# Altium integrated library PLD Supported Devices.IntLib: 344 symbols (part 1 of 6)
Pins are listed as number, name and electrical type; pins without a type are passive.

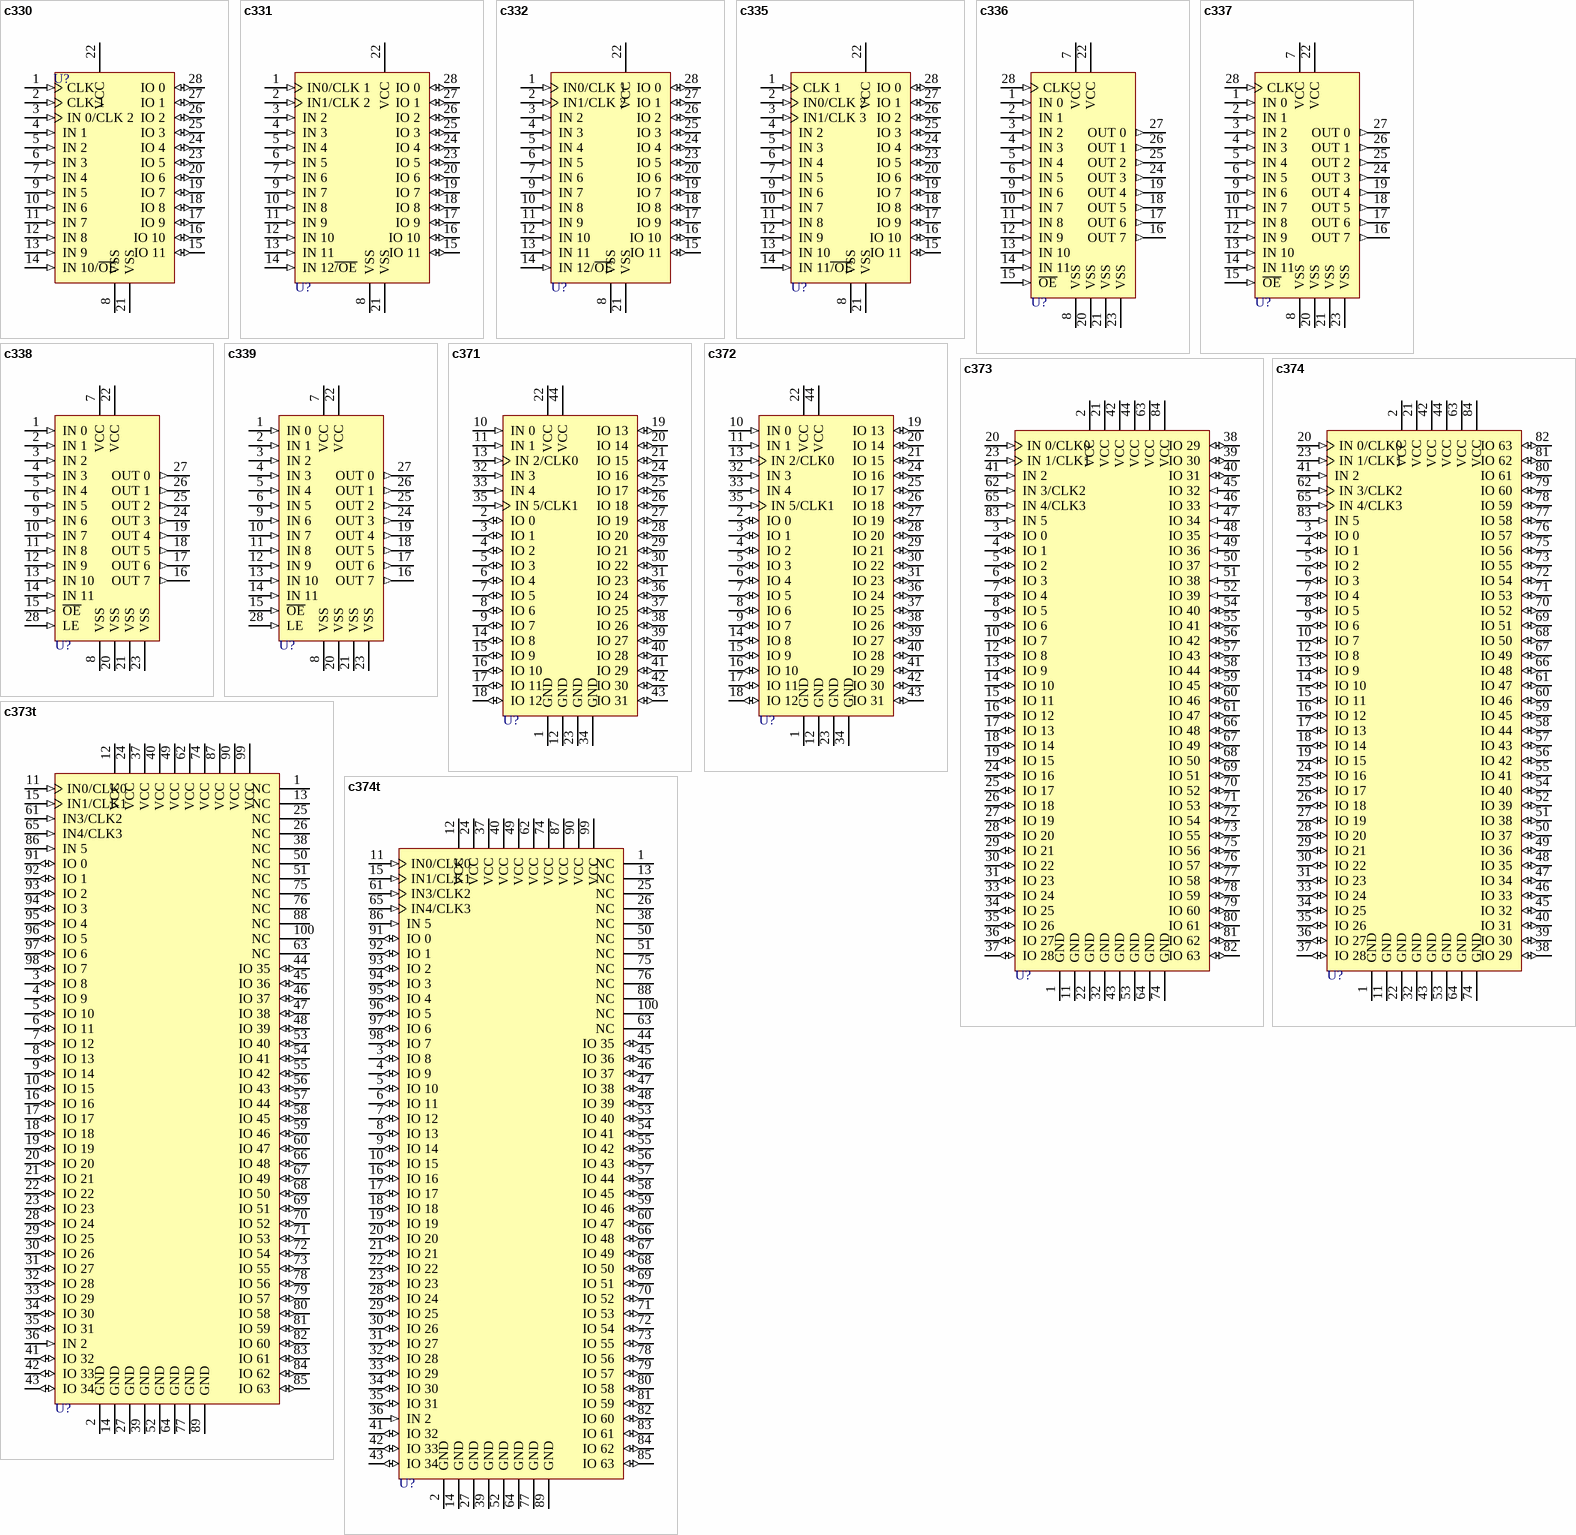
[diagram p0: symbols c330 to c374t]

## c330
designator U?
CMOS Programmable Synchronous State Machine; Published: 16-Jul-2002; LatestRevisionDate: 17-Jul-2002; LatestRevisionNote: Re-released for DXP Platform.; Publisher: Altium Limited
footprint DIP-28/D37.8
pins: 1 CLK (in), 2 CLK 1 (in), 3 IN 0/CLK 2 (in), 4 IN 1 (in), 5 IN 2 (in), 6 IN 3 (in), 7 IN 4 (in), 8 VSS (power), 9 IN 5 (in), 10 IN 6 (in), 11 IN 7 (in), 12 IN 8 (in), 13 IN 9 (in), 14 IN 10/~{OE} (in), 15 IO 11 (io), 16 IO 10 (io), 17 IO 9 (io), 18 IO 8 (io), 19 IO 7 (io), 20 IO 6 (io), 21 VSS (power), 22 VCC (power), 23 IO 5 (io), 24 IO 4 (io), 25 IO 3 (io), 26 IO 2 (io), 27 IO 1 (io), 28 IO 0 (io)

## c331
designator U?
Asynchronous Registered EPLD; Published: 16-Jul-2002; LatestRevisionDate: 17-Jul-2002; LatestRevisionNote: Re-released for DXP Platform.; Publisher: Altium Limited
footprint DIP-28/D37.8
pins: 1 IN0/CLK 1 (in), 2 IN1/CLK 2 (in), 3 IN 2 (in), 4 IN 3 (in), 5 IN 4 (in), 6 IN 5 (in), 7 IN 6 (in), 8 VSS (power), 9 IN 7 (in), 10 IN 8 (in), 11 IN 9 (in), 12 IN 10 (in), 13 IN 11 (in), 14 IN 12~{/OE} (in), 15 IO 11 (io), 16 IO 10 (io), 17 IO 9 (io), 18 IO 8 (io), 19 IO 7 (io), 20 IO 6 (io), 21 VSS (power), 22 VCC (power), 23 IO 5 (io), 24 IO 4 (io), 25 IO 3 (io), 26 IO 2 (io), 27 IO 1 (io), 28 IO 0 (io)

## c332
designator U?
Asynchronous Registered EPLD; Published: 16-Jul-2002; LatestRevisionDate: 17-Jul-2002; LatestRevisionNote: Re-released for DXP Platform.; Publisher: Altium Limited
footprint DIP-28/D37.8
pins: 1 IN0/CLK 1 (in), 2 IN1/CLK 2 (in), 3 IN 2 (in), 4 IN 3 (in), 5 IN 4 (in), 6 IN 5 (in), 7 IN 6 (in), 8 VSS (power), 9 IN 7 (in), 10 IN 8 (in), 11 IN 9 (in), 12 IN 10 (in), 13 IN 11 (in), 14 IN 12/~{OE} (in), 15 IO 11 (io), 16 IO 10 (io), 17 IO 9 (io), 18 IO 8 (io), 19 IO 7 (io), 20 IO 6 (io), 21 VSS (power), 22 VCC (power), 23 IO 5 (io), 24 IO 4 (io), 25 IO 3 (io), 26 IO 2 (io), 27 IO 1 (io), 28 IO 0 (io)

## c335
designator U?
Universal Synchronous EPLD; Published: 16-Jul-2002; LatestRevisionDate: 17-Jul-2002; LatestRevisionNote: Re-released for DXP Platform.; Publisher: Altium Limited
footprint DIP-28/D37.8
pins: 1 CLK 1 (in), 2 IN0/CLK 2 (in), 3 IN1/CLK 3 (in), 4 IN 2 (in), 5 IN 3 (in), 6 IN 4 (in), 7 IN 5 (in), 8 VSS (power), 9 IN 6 (in), 10 IN 7 (in), 11 IN 8 (in), 12 IN 9 (in), 13 IN 10 (in), 14 IN 11~{/OE} (in), 15 IO 11 (io), 16 IO 10 (io), 17 IO 9 (io), 18 IO 8 (io), 19 IO 7 (io), 20 IO 6 (io), 21 VSS (power), 22 VCC (power), 23 IO 5 (io), 24 IO 4 (io), 25 IO 3 (io), 26 IO 2 (io), 27 IO 1 (io), 28 IO 0 (io)

## c336
designator U?
6ns BICMOS PAL with Input Registers; Published: 16-Jul-2002; LatestRevisionDate: 17-Jul-2002; LatestRevisionNote: Re-released for DXP Platform.; Publisher: Altium Limited
footprint DIP-28/D37.8
pins: 1 IN 0 (in), 2 IN 1 (in), 3 IN 2 (in), 4 IN 3 (in), 5 IN 4 (in), 6 IN 5 (in), 7 VCC (power), 8 VSS (power), 9 IN 6 (in), 10 IN 7 (in), 11 IN 8 (in), 12 IN 9 (in), 13 IN 10 (in), 14 IN 11 (in), 15 ~{OE} (in), 16 OUT 7 (out), 17 OUT 6 (out), 18 OUT 5 (out), 19 OUT 4 (out), 20 VSS (power), 21 VSS (power), 22 VCC (power), 23 VSS (power), 24 OUT 3 (out), 25 OUT 2 (out), 26 OUT 1 (out), 27 OUT 0 (out), 28 CLK (in)

## c337
designator U?
6ns BICMOS PAL with Input Registers; Published: 16-Jul-2002; LatestRevisionDate: 17-Jul-2002; LatestRevisionNote: Re-released for DXP Platform.; Publisher: Altium Limited
footprint DIP-28/D37.8
pins: 1 IN 0 (in), 2 IN 1 (in), 3 IN 2 (in), 4 IN 3 (in), 5 IN 4 (in), 6 IN 5 (in), 7 VCC (power), 8 VSS (power), 9 IN 6 (in), 10 IN 7 (in), 11 IN 8 (in), 12 IN 9 (in), 13 IN 10 (in), 14 IN 11 (in), 15 ~{OE} (in), 16 OUT 7 (out), 17 OUT 6 (out), 18 OUT 5 (out), 19 OUT 4 (out), 20 VSS (power), 21 VSS (power), 22 VCC (power), 23 VSS (power), 24 OUT 3 (out), 25 OUT 2 (out), 26 OUT 1 (out), 27 OUT 0 (out), 28 CLK (in)

## c338
designator U?
6ns BICMOS PAL with Input Registers; Published: 16-Jul-2002; LatestRevisionDate: 17-Jul-2002; LatestRevisionNote: Re-released for DXP Platform.; Publisher: Altium Limited
footprint DIP-28/D37.8
pins: 1 IN 0 (in), 2 IN 1 (in), 3 IN 2 (in), 4 IN 3 (in), 5 IN 4 (in), 6 IN 5 (in), 7 VCC (power), 8 VSS (power), 9 IN 6 (in), 10 IN 7 (in), 11 IN 8 (in), 12 IN 9 (in), 13 IN 10 (in), 14 IN 11 (in), 15 ~{OE} (in), 16 OUT 7 (out), 17 OUT 6 (out), 18 OUT 5 (out), 19 OUT 4 (out), 20 VSS (power), 21 VSS (power), 22 VCC (power), 23 VSS (power), 24 OUT 3 (out), 25 OUT 2 (out), 26 OUT 1 (out), 27 OUT 0 (out), 28 LE (in)

## c339
designator U?
6ns BICMOS PAL with Input Registers; Published: 16-Jul-2002; LatestRevisionDate: 17-Jul-2002; LatestRevisionNote: Re-released for DXP Platform.; Publisher: Altium Limited
footprint DIP-28/D37.8
pins: 1 IN 0 (in), 2 IN 1 (in), 3 IN 2 (in), 4 IN 3 (in), 5 IN 4 (in), 6 IN 5 (in), 7 VCC (power), 8 VSS (power), 9 IN 6 (in), 10 IN 7 (in), 11 IN 8 (in), 12 IN 9 (in), 13 IN 10 (in), 14 IN 11 (in), 15 ~{OE} (in), 16 OUT 7 (out), 17 OUT 6 (out), 18 OUT 5 (out), 19 OUT 4 (out), 20 VSS (power), 21 VSS (power), 22 VCC (power), 23 VSS (power), 24 OUT 3 (out), 25 OUT 2 (out), 26 OUT 1 (out), 27 OUT 0 (out), 28 LE (in)

## c371
designator U?
32-Macrocell Flash PLD; Published: 16-Jul-2002; LatestRevisionDate: 17-Jul-2002; LatestRevisionNote: Re-released for DXP Platform.; Publisher: Altium Limited
footprint QCC-J44/Y2.2
pins: 1 GND (power), 2 IO 0 (io), 3 IO 1 (io), 4 IO 2 (io), 5 IO 3 (io), 6 IO 4 (io), 7 IO 5 (io), 8 IO 6 (io), 9 IO 7 (io), 10 IN 0 (in), 11 IN 1 (in), 12 GND (power), 13 IN 2/CLK0 (in), 14 IO 8 (io), 15 IO 9 (io), 16 IO 10 (io), 17 IO 11 (io), 18 IO 12 (io), 19 IO 13 (io), 20 IO 14 (io), 21 IO 15 (io), 22 VCC (power), 23 GND (power), 24 IO 16 (io), 25 IO 17 (io), 26 IO 18 (io), 27 IO 19 (io), 28 IO 20 (io), 29 IO 21 (io), 30 IO 22 (io), 31 IO 23 (io), 32 IN 3 (in), 33 IN 4 (in), 34 GND (power), 35 IN 5/CLK1 (in), 36 IO 24 (io), 37 IO 25 (io), 38 IO 26 (io), 39 IO 27 (io), 40 IO 28 (io), 41 IO 29 (io), 42 IO 30 (io), 43 IO 31 (io), 44 VCC (power)

## c372
designator U?
64-Macrocell Flash PLD; Published: 16-Jul-2002; LatestRevisionDate: 17-Jul-2002; LatestRevisionNote: Re-released for DXP Platform.; Publisher: Altium Limited
footprint QCC-J44/Y2.2
pins: 1 GND (power), 2 IO 0 (io), 3 IO 1 (io), 4 IO 2 (io), 5 IO 3 (io), 6 IO 4 (io), 7 IO 5 (io), 8 IO 6 (io), 9 IO 7 (io), 10 IN 0 (in), 11 IN 1 (in), 12 GND (power), 13 IN 2/CLK0 (in), 14 IO 8 (io), 15 IO 9 (io), 16 IO 10 (io), 17 IO 11 (io), 18 IO 12 (io), 19 IO 13 (io), 20 IO 14 (io), 21 IO 15 (io), 22 VCC (power), 23 GND (power), 24 IO 16 (io), 25 IO 17 (io), 26 IO 18 (io), 27 IO 19 (io), 28 IO 20 (io), 29 IO 21 (io), 30 IO 22 (io), 31 IO 23 (io), 32 IN 3 (in), 33 IN 4 (in), 34 GND (power), 35 IN 5/CLK1 (in), 36 IO 24 (io), 37 IO 25 (io), 38 IO 26 (io), 39 IO 27 (io), 40 IO 28 (io), 41 IO 29 (io), 42 IO 30 (io), 43 IO 31 (io), 44 VCC (power)

## c373
designator U?
64-Macrocell Flash PLD; Published: 16-Jul-2002; LatestRevisionDate: 17-Jul-2002; LatestRevisionNote: Re-released for DXP Platform.; Publisher: Altium Limited
footprint QCC-J84
pins: 1 GND (power), 2 VCC (power), 3 IO 0 (io), 4 IO 1 (io), 5 IO 2 (io), 6 IO 3 (io), 7 IO 4 (io), 8 IO 5 (io), 9 IO 6 (io), 10 IO 7 (io), 11 GND (power), 12 IO 8 (io), 13 IO 9 (io), 14 IO 10 (io), 15 IO 11 (io), 16 IO 12 (io), 17 IO 13 (io), 18 IO 14 (io), 19 IO 15 (io), 20 IN 0/CLK0 (in), 21 VCC (power), 22 GND (power), 23 IN 1/CLK1 (in), 24 IO 16 (io), 25 IO 17 (io), 26 IO 18 (io), 27 IO 19 (io), 28 IO 20 (io), 29 IO 21 (io), 30 IO 22 (io), 31 IO 23 (io), 32 GND (power), 33 IO 24 (io), 34 IO 25 (io), 35 IO 26 (io), 36 IO 27 (io), 37 IO 28 (io), 38 IO 29 (io), 39 IO 30 (io), 40 IO 31 (io), 41 IN 2 (in), 42 VCC (power), 43 GND (power), 44 VCC (power), 45 IO 32 (in), 46 IO 33 (in), 47 IO 34 (in), 48 IO 35 (in), 49 IO 36 (in), 50 IO 37 (in), 51 IO 38 (in), 52 IO 39 (in), 53 GND (power), 54 IO 40 (io), 55 IO 41 (io), 56 IO 42 (io), 57 IO 43 (io), 58 IO 44 (io), 59 IO 45 (io), 60 IO 46 (io), 61 IO 47 (io), 62 IN 3/CLK2 (in), 63 VCC (power), 64 GND (power), 65 IN 4/CLK3 (in), 66 IO 48 (io), 67 IO 49 (io), 68 IO 50 (io), 69 IO 51 (io), 70 IO 52 (io), 71 IO 53 (io), 72 IO 54 (io), 73 IO 55 (io), 74 GND (power), 75 IO 56 (io), 76 IO 57 (io), 77 IO 58 (io), 78 IO 59 (io), 79 IO 60 (io), 80 IO 61 (io), 81 IO 62 (io), 82 IO 63 (io), 83 IN 5 (in), 84 VCC (power)

## c373t
designator U?
64-Macrocell Flash PLD; Published: 16-Jul-2002; LatestRevisionDate: 17-Jul-2002; LatestRevisionNote: Re-released for DXP Platform.; Publisher: Altium Limited
footprint F-QFP14x14-G100/P.5N
pins: 1 NC, 2 GND (power), 3 IO 8 (io), 4 IO 9 (io), 5 IO 10 (io), 6 IO 11 (io), 7 IO 12 (io), 8 IO 13 (io), 9 IO 14 (io), 10 IO 15 (io), 11 IN0/CLK0 (in), 12 VCC (power), 13 NC, 14 GND (power), 15 IN1/CLK1 (in), 16 IO 16 (io), 17 IO 17 (io), 18 IO 18 (io), 19 IO 19 (io), 20 IO 20 (io), 21 IO 21 (io), 22 IO 22 (io), 23 IO 23 (io), 24 VCC (power), 25 NC, 26 NC, 27 GND (power), 28 IO 24 (io), 29 IO 25 (io), 30 IO 26 (io), 31 IO 27 (io), 32 IO 28 (io), 33 IO 29 (io), 34 IO 30 (io), 35 IO 31 (io), 36 IN 2 (in), 37 VCC (power), 38 NC, 39 GND (power), 40 VCC (power), 41 IO 32 (io), 42 IO 33 (io), 43 IO 34 (io), 44 IO 35 (io), 45 IO 36 (io), 46 IO 37 (io), 47 IO 38 (io), 48 IO 39 (io), 49 VCC (power), 50 NC, 51 NC, 52 GND (power), 53 IO 40 (io), 54 IO 41 (io), 55 IO 42 (io), 56 IO 43 (io), 57 IO 44 (io), 58 IO 45 (io), 59 IO 46 (io), 60 IO 47 (io), 61 IN3/CLK2 (in), 62 VCC (power), 63 NC, 64 GND (power), 65 IN4/CLK3 (in), 66 IO 48 (io), 67 IO 49 (io), 68 IO 50 (io), 69 IO 51 (io), 70 IO 52 (io), 71 IO 53 (io), 72 IO 54 (io), 73 IO 55 (io), 74 VCC (power), 75 NC, 76 NC, 77 GND (power), 78 IO 56 (io), 79 IO 57 (io), 80 IO 58 (io), 81 IO 59 (io), 82 IO 60 (io), 83 IO 61 (io), 84 IO 62 (io), 85 IO 63 (io), 86 IN 5 (in), 87 VCC (power), 88 NC, 89 GND (power), 90 VCC (power), 91 IO 0 (io), 92 IO 1 (io), 93 IO 2 (io), 94 IO 3 (io), 95 IO 4 (io), 96 IO 5 (io), 97 IO 6 (io), 98 IO 7 (io), 99 VCC (power), 100 NC

## c374
designator U?
128-Macrocell Flash PLD; Published: 16-Jul-2002; LatestRevisionDate: 17-Jul-2002; LatestRevisionNote: Re-released for DXP Platform.; Publisher: Altium Limited
footprint QCC-J84
pins: 1 GND (power), 2 VCC (power), 3 IO 0 (io), 4 IO 1 (io), 5 IO 2 (io), 6 IO 3 (io), 7 IO 4 (io), 8 IO 5 (io), 9 IO 6 (io), 10 IO 7 (io), 11 GND (power), 12 IO 8 (io), 13 IO 9 (io), 14 IO 10 (io), 15 IO 11 (io), 16 IO 12 (io), 17 IO 13 (io), 18 IO 14 (io), 19 IO 15 (io), 20 IN 0/CLK0 (in), 21 VCC (power), 22 GND (power), 23 IN 1/CLK1 (in), 24 IO 16 (io), 25 IO 17 (io), 26 IO 18 (io), 27 IO 19 (io), 28 IO 20 (io), 29 IO 21 (io), 30 IO 22 (io), 31 IO 23 (io), 32 GND (power), 33 IO 24 (io), 34 IO 25 (io), 35 IO 26 (io), 36 IO 27 (io), 37 IO 28 (io), 38 IO 29 (io), 39 IO 30 (io), 40 IO 31 (io), 41 IN 2 (in), 42 VCC (power), 43 GND (power), 44 VCC (power), 45 IO 32 (io), 46 IO 33 (io), 47 IO 34 (io), 48 IO 35 (io), 49 IO 36 (io), 50 IO 37 (io), 51 IO 38 (io), 52 IO 39 (io), 53 GND (power), 54 IO 40 (io), 55 IO 41 (io), 56 IO 42 (io), 57 IO 43 (io), 58 IO 44 (io), 59 IO 45 (io), 60 IO 46 (io), 61 IO 47 (io), 62 IN 3/CLK2 (in), 63 VCC (power), 64 GND (power), 65 IN 4/CLK3 (in), 66 IO 48 (io), 67 IO 49 (io), 68 IO 50 (io), 69 IO 51 (io), 70 IO 52 (io), 71 IO 53 (io), 72 IO 54 (io), 73 IO 55 (io), 74 GND (power), 75 IO 56 (io), 76 IO 57 (io), 77 IO 58 (io), 78 IO 59 (io), 79 IO 60 (io), 80 IO 61 (io), 81 IO 62 (io), 82 IO 63 (io), 83 IN 5 (in), 84 VCC (power)

## c374t
designator U?
64-Macrocell Flash PLD; Published: 16-Jul-2002; LatestRevisionDate: 17-Jul-2002; LatestRevisionNote: Re-released for DXP Platform.; Publisher: Altium Limited
footprint F-QFP14x14-G100/P.5N
pins: 1 NC, 2 GND (power), 3 IO 8 (io), 4 IO 9 (io), 5 IO 10 (io), 6 IO 11 (io), 7 IO 12 (io), 8 IO 13 (io), 9 IO 14 (io), 10 IO 15 (io), 11 IN0/CLK0 (in), 12 VCC (power), 13 NC, 14 GND (power), 15 IN1/CLK1 (in), 16 IO 16 (io), 17 IO 17 (io), 18 IO 18 (io), 19 IO 19 (io), 20 IO 20 (io), 21 IO 21 (io), 22 IO 22 (io), 23 IO 23 (io), 24 VCC (power), 25 NC, 26 NC, 27 GND (power), 28 IO 24 (io), 29 IO 25 (io), 30 IO 26 (io), 31 IO 27 (io), 32 IO 28 (io), 33 IO 29 (io), 34 IO 30 (io), 35 IO 31 (io), 36 IN 2 (in), 37 VCC (power), 38 NC, 39 GND (power), 40 VCC (power), 41 IO 32 (io), 42 IO 33 (io), 43 IO 34 (io), 44 IO 35 (io), 45 IO 36 (io), 46 IO 37 (io), 47 IO 38 (io), 48 IO 39 (io), 49 VCC (power), 50 NC, 51 NC, 52 GND (power), 53 IO 40 (io), 54 IO 41 (io), 55 IO 42 (io), 56 IO 43 (io), 57 IO 44 (io), 58 IO 45 (io), 59 IO 46 (io), 60 IO 47 (io), 61 IN3/CLK2 (in), 62 VCC (power), 63 NC, 64 GND (power), 65 IN4/CLK3 (in), 66 IO 48 (io), 67 IO 49 (io), 68 IO 50 (io), 69 IO 51 (io), 70 IO 52 (io), 71 IO 53 (io), 72 IO 54 (io), 73 IO 55 (io), 74 VCC (power), 75 NC, 76 NC, 77 GND (power), 78 IO 56 (io), 79 IO 57 (io), 80 IO 58 (io), 81 IO 59 (io), 82 IO 60 (io), 83 IO 61 (io), 84 IO 62 (io), 85 IO 63 (io), 86 IN 5 (in), 87 VCC (power), 88 NC, 89 GND (power), 90 VCC (power), 91 IO 0 (io), 92 IO 1 (io), 93 IO 2 (io), 94 IO 3 (io), 95 IO 4 (io), 96 IO 5 (io), 97 IO 6 (io), 98 IO 7 (io), 99 VCC (power), 100 NC

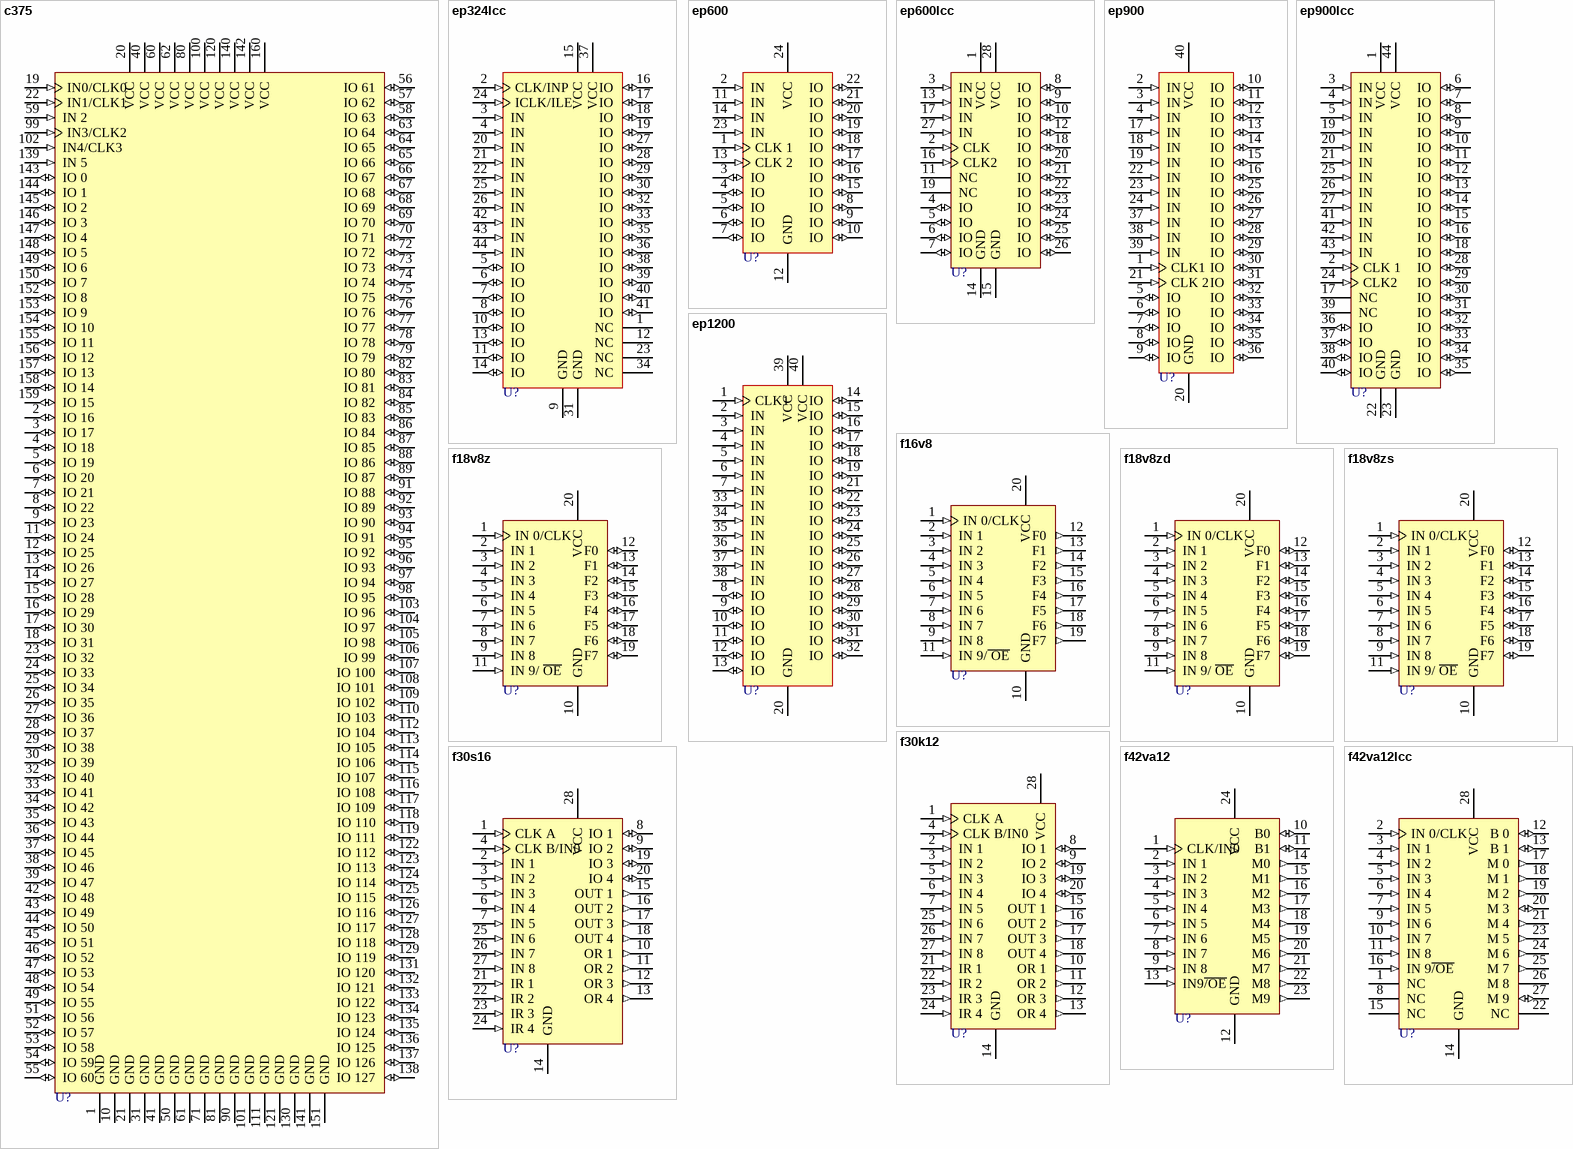
[diagram p1: symbols c375 to f42va12lcc]

## c375
designator U?
1128-Macrocell Flash PLD; Published: 16-Jul-2002; LatestRevisionDate: 17-Jul-2002; LatestRevisionNote: Re-released for DXP Platform.; Publisher: Altium Limited
footprint F-QFP24x24-G160/N
pins: 1 GND (power), 2 IO 16 (io), 3 IO 17 (io), 4 IO 18 (io), 5 IO 19 (io), 6 IO 20 (io), 7 IO 21 (io), 8 IO 22 (io), 9 IO 23 (io), 10 GND (power), 11 IO 24 (io), 12 IO 25 (io), 13 IO 26 (io), 14 IO 27 (io), 15 IO 28 (io), 16 IO 29 (io), 17 IO 30 (io), 18 IO 31 (io), 19 IN0/CLK0 (in), 20 VCC (power), 21 GND (power), 22 IN1/CLK1 (in), 23 IO 32 (io), 24 IO 33 (io), 25 IO 34 (io), 26 IO 35 (io), 27 IO 36 (io), 28 IO 37 (io), 29 IO 38 (io), 30 IO 39 (io), 31 GND (power), 32 IO 40 (io), 33 IO 41 (io), 34 IO 42 (io), 35 IO 43 (io), 36 IO 44 (io), 37 IO 45 (io), 38 IO 46 (io), 39 IO 47 (io), 40 VCC (power), 41 GND (power), 42 IO 48 (io), 43 IO 49 (io), 44 IO 50 (io), 45 IO 51 (io), 46 IO 52 (io), 47 IO 53 (io), 48 IO 54 (io), 49 IO 55 (io), 50 GND (power), 51 IO 56 (io), 52 IO 57 (io), 53 IO 58 (io), 54 IO 59 (io), 55 IO 60 (io), 56 IO 61 (io), 57 IO 62 (io), 58 IO 63 (io), 59 IN 2 (in), 60 VCC (power), 61 GND (power), 62 VCC (power), 63 IO 64 (io), 64 IO 65 (io), 65 IO 66 (io), 66 IO 67 (io), 67 IO 68 (io), 68 IO 69 (io), 69 IO 70 (io), 70 IO 71 (io), 71 GND (power), 72 IO 72 (io), 73 IO 73 (io), 74 IO 74 (io), 75 IO 75 (io), 76 IO 76 (io), 77 IO 77 (io), 78 IO 78 (io), 79 IO 79 (io), 80 VCC (power), 81 GND (power), 82 IO 80 (io), 83 IO 81 (io), 84 IO 82 (io), 85 IO 83 (io), 86 IO 84 (io), 87 IO 85 (io), 88 IO 86 (io), 89 IO 87 (io), 90 GND (power), 91 IO 88 (io), 92 IO 89 (io), 93 IO 90 (io), 94 IO 91 (io), 95 IO 92 (io), 96 IO 93 (io), 97 IO 94 (io), 98 IO 95 (io), 99 IN3/CLK2 (in), 100 VCC (power), 101 GND (power), 102 IN4/CLK3 (in), 103 IO 96 (io), 104 IO 97 (io), 105 IO 98 (io), 106 IO 99 (io), 107 IO 100 (io), 108 IO 101 (io), 109 IO 102 (io), 110 IO 103 (io), 111 GND (power), 112 IO 104 (io), 113 IO 105 (io), 114 IO 106 (io), 115 IO 107 (io), 116 IO 108 (io), 117 IO 109 (io), 118 IO 110 (io), 119 IO 111 (io), 120 VCC (power), 121 GND (power), 122 IO 112 (io), 123 IO 113 (io), 124 IO 114 (io), 125 IO 115 (io), 126 IO 116 (io), 127 IO 117 (io), 128 IO 118 (io), 129 IO 119 (io), 130 GND (power), 131 IO 120 (io), 132 IO 121 (io), 133 IO 122 (io), 134 IO 123 (io), 135 IO 124 (io), 136 IO 125 (io), 137 IO 126 (io), 138 IO 127 (io), 139 IN 5 (in), 140 VCC (power), 141 GND (power), 142 VCC (power), 143 IO 0 (io), 144 IO 1 (io), 145 IO 2 (io), 146 IO 3 (io), 147 IO 4 (io), 148 IO 5 (io), 149 IO 6 (io), 150 IO 7 (io), 151 GND (power), 152 IO 8 (io), 153 IO 9 (io), 154 IO 10 (io), 155 IO 11 (io), 156 IO 12 (io), 157 IO 13 (io), 158 IO 14 (io), 159 IO 15 (io), 160 VCC (power)

## ep324lcc
designator U?
Erasable Programmable Logic Device (8-Macrocell); Published: 16-Jul-2002; LatestRevisionDate: 17-Jul-2002; LatestRevisionNote: Re-released for DXP Platform.; Publisher: Altium Limited
pins: 1 NC, 2 CLK/INP (in), 3 IN (in), 4 IN (in), 5 IO (io), 6 IO (io), 7 IO (io), 8 IO (io), 9 GND (power), 10 IO (io), 11 IO (io), 12 NC, 13 IO (io), 14 IO (io), 15 VCC (power), 16 IO (io), 17 IO (io), 18 IO (io), 19 IO (io), 20 IN (in), 21 IN (in), 22 IN (in), 23 NC, 24 ICLK/ILE (in), 25 IN (in), 26 IN (in), 27 IO (io), 28 IO (io), 29 IO (io), 30 IO (io), 31 GND (power), 32 IO (io), 33 IO (io), 34 NC, 35 IO (io), 36 IO (io), 37 VCC (power), 38 IO (io), 39 IO (io), 40 IO (io), 41 IO (io), 42 IN (in), 43 IN (in), 44 IN (in)

## ep600
designator U?
16-Macrocell EPLD; Published: 16-Jul-2002; LatestRevisionDate: 17-Jul-2002; LatestRevisionNote: Re-released for DXP Platform.; Publisher: Altium Limited
footprint DIP-24/X1.5
pins: 1 CLK 1 (in), 2 IN (in), 3 IO (io), 4 IO (io), 5 IO (io), 6 IO (io), 7 IO (io), 8 IO (io), 9 IO (io), 10 IO (io), 11 IN (in), 12 GND (power), 13 CLK 2 (in), 14 IN (in), 15 IO (io), 16 IO (io), 17 IO (io), 18 IO (io), 19 IO (io), 20 IO (io), 21 IO (io), 22 IO (io), 23 IN (in), 24 VCC (power)

## ep600lcc
designator U?
16-Macrocell EPLD; Published: 16-Jul-2002; LatestRevisionDate: 17-Jul-2002; LatestRevisionNote: Re-released for DXP Platform.; Publisher: Altium Limited
footprint QCC-J28/X.6
pins: 1 VCC (power), 2 CLK (in), 3 IN (in), 4 IO (io), 5 IO (io), 6 IO (io), 7 IO (io), 8 IO (io), 9 IO (io), 10 IO (io), 11 NC, 12 IO (io), 13 IN (in), 14 GND (power), 15 GND (power), 16 CLK2 (in), 17 IN (in), 18 IO (io), 19 NC, 20 IO (io), 21 IO (io), 22 IO (io), 23 IO (io), 24 IO (io), 25 IO (io), 26 IO (io), 27 IN (in), 28 VCC (power)

## ep900
designator U?
24-Macrocell Classic EPLD; Published: 16-Jul-2002; LatestRevisionDate: 17-Jul-2002; LatestRevisionNote: Re-released for DXP Platform.; Publisher: Altium Limited
footprint DIP-40/D53
pins: 1 CLK1 (in), 2 IN (in), 3 IN (in), 4 IN (in), 5 IO (io), 6 IO (io), 7 IO (io), 8 IO (io), 9 IO (io), 10 IO (io), 11 IO (io), 12 IO (io), 13 IO (io), 14 IO (io), 15 IO (io), 16 IO (io), 17 IN (in), 18 IN (in), 19 IN (in), 20 GND (power), 21 CLK 2 (in), 22 IN (in), 23 IN (in), 24 IN (in), 25 IO (io), 26 IO (io), 27 IO (io), 28 IO (io), 29 IO (io), 30 IO (io), 31 IO (io), 32 IO (io), 33 IO (io), 34 IO (io), 35 IO (io), 36 IO (io), 37 IN (in), 38 IN (in), 39 IN (in), 40 VCC (power)

## ep900lcc
designator U?
24-Macrocell Classic EPLD; Published: 16-Jul-2002; LatestRevisionDate: 17-Jul-2002; LatestRevisionNote: Re-released for DXP Platform.; Publisher: Altium Limited
footprint QCC-J44
pins: 1 VCC (power), 2 CLK 1 (in), 3 IN (in), 4 IN (in), 5 IN (in), 6 IO (io), 7 IO (io), 8 IO (io), 9 IO (io), 10 IO (io), 11 IO (io), 12 IO (io), 13 IO (io), 14 IO (io), 15 IO (io), 16 IO (io), 17 NC, 18 IO (io), 19 IN (in), 20 IN (in), 21 IN (in), 22 GND (power), 23 GND (power), 24 CLK2 (in), 25 IN (in), 26 IN (in), 27 IN (in), 28 IO (io), 29 IO (io), 30 IO (io), 31 IO (io), 32 IO (io), 33 IO (io), 34 IO (io), 35 IO (io), 36 IO (io), 37 IO (io), 38 IO (io), 39 NC, 40 IO (io), 41 IN (in), 42 IN (in), 43 IN (in), 44 VCC (power)

## ep1200
designator U?
LSI Logic Circuit contains CMOS EPROM (28-Macrocell); Published: 16-Jul-2002; LatestRevisionDate: 17-Jul-2002; LatestRevisionNote: Re-released for DXP Platform.; Publisher: Altium Limited
pins: 1 CLK1 (in), 2 IN (in), 3 IN (in), 4 IN (in), 5 IN (in), 6 IN (in), 7 IN (in), 8 IO (io), 9 IO (io), 10 IO (io), 11 IO (io), 12 IO (io), 13 IO (io), 14 IO (io), 15 IO (io), 16 IO (io), 17 IO (io), 18 IO (io), 19 IO (io), 20 GND (power), 21 IO (io), 22 IO (io), 23 IO (io), 24 IO (io), 25 IO (io), 26 IO (io), 27 IO (io), 28 IO (io), 29 IO (io), 30 IO (io), 31 IO (io), 32 IO (io), 33 IN (in), 34 IN (in), 35 IN (in), 36 IN (in), 37 IN (in), 38 IN (in), 39 VCC (power), 40 VCC (power)

## f16v8
designator U?
High-Performance EEPLD; Published: 16-Jul-2002; LatestRevisionDate: 17-Jul-2002; LatestRevisionNote: Re-released for DXP Platform.; Publisher: Altium Limited
footprint SO-G20/D13
pins: 1 IN 0/CLK (in), 2 IN 1 (in), 3 IN 2 (in), 4 IN 3 (in), 5 IN 4 (in), 6 IN 5 (in), 7 IN 6 (in), 8 IN 7 (in), 9 IN 8 (in), 10 GND (power), 11 IN 9/~{ OE} (in), 12 F0 (out), 13 F1 (out), 14 F2 (out), 15 F3 (out), 16 F4 (out), 17 F5 (out), 18 F6 (out), 19 F7 (out), 20 VCC (power)

## f18v8z
designator U?
Zero-Standby Power 20-Pin EPLD; Published: 16-Jul-2002; LatestRevisionDate: 17-Jul-2002; LatestRevisionNote: Re-released for DXP Platform.; Publisher: Altium Limited
footprint DIP-20/E5.3
pins: 1 IN 0/CLK (in), 2 IN 1 (in), 3 IN 2 (in), 4 IN 3 (in), 5 IN 4 (in), 6 IN 5 (in), 7 IN 6 (in), 8 IN 7 (in), 9 IN 8 (in), 10 GND (power), 11 IN 9/ ~{OE} (in), 12 F0 (io), 13 F1 (io), 14 F2 (io), 15 F3 (io), 16 F4 (io), 17 F5 (io), 18 F6 (io), 19 F7 (io), 20 VCC (power)

## f18v8zd
designator U?
Zero-Standby Power 20-Pin EPLD; Published: 16-Jul-2002; LatestRevisionDate: 17-Jul-2002; LatestRevisionNote: Re-released for DXP Platform.; Publisher: Altium Limited
footprint DIP-20/E5.3
pins: 1 IN 0/CLK (in), 2 IN 1 (in), 3 IN 2 (in), 4 IN 3 (in), 5 IN 4 (in), 6 IN 5 (in), 7 IN 6 (in), 8 IN 7 (in), 9 IN 8 (in), 10 GND (power), 11 IN 9/ ~{OE} (in), 12 F0 (io), 13 F1 (io), 14 F2 (io), 15 F3 (io), 16 F4 (io), 17 F5 (io), 18 F6 (io), 19 F7 (io), 20 VCC (power)

## f18v8zs
designator U?
Zero-Standby Power 20-Pin EPLD; Published: 16-Jul-2002; LatestRevisionDate: 17-Jul-2002; LatestRevisionNote: Re-released for DXP Platform.; Publisher: Altium Limited
footprint QCC-J20
pins: 1 IN 0/CLK (in), 2 IN 1 (in), 3 IN 2 (in), 4 IN 3 (in), 5 IN 4 (in), 6 IN 5 (in), 7 IN 6 (in), 8 IN 7 (in), 9 IN 8 (in), 10 GND (power), 11 IN 9/ ~{OE} (in), 12 F0 (io), 13 F1 (io), 14 F2 (io), 15 F3 (io), 16 F4 (io), 17 F5 (io), 18 F6 (io), 19 F7 (io), 20 VCC (power)

## f30k12
designator U?
28-Pin Universal Programmable Logic Sequencers; Published: 16-Jul-2002; LatestRevisionDate: 17-Jul-2002; LatestRevisionNote: Re-released for DXP Platform.; Publisher: Altium Limited
pins: 1 CLK A (in), 2 IN 1 (in), 3 IN 2 (in), 4 CLK B/IN0 (in), 5 IN 3 (in), 6 IN 4 (in), 7 IN 5 (in), 8 IO 1 (io), 9 IO 2 (io), 10 OR 1 (out), 11 OR 2 (out), 12 OR 3 (out), 13 OR 4 (out), 14 GND (power), 15 OUT 1 (out), 16 OUT 2 (out), 17 OUT 3 (out), 18 OUT 4 (out), 19 IO 3 (io), 20 IO 4 (io), 21 IR 1 (in), 22 IR 2 (in), 23 IR 3 (in), 24 IR 4 (in), 25 IN 6 (in), 26 IN 7 (in), 27 IN 8 (in), 28 VCC (power)

## f30s16
designator U?
28-Pin Universal Programmable Logic Sequencers; Published: 16-Jul-2002; LatestRevisionDate: 17-Jul-2002; LatestRevisionNote: Re-released for DXP Platform.; Publisher: Altium Limited
pins: 1 CLK A (in), 2 IN 1 (in), 3 IN 2 (in), 4 CLK B/IN0 (in), 5 IN 3 (in), 6 IN 4 (in), 7 IN 5 (in), 8 IO 1 (io), 9 IO 2 (io), 10 OR 1 (out), 11 OR 2 (out), 12 OR 3 (out), 13 OR 4 (out), 14 GND (power), 15 OUT 1 (out), 16 OUT 2 (out), 17 OUT 3 (out), 18 OUT 4 (out), 19 IO 3 (io), 20 IO 4 (io), 21 IR 1 (in), 22 IR 2 (in), 23 IR 3 (in), 24 IR 4 (in), 25 IN 6 (in), 26 IN 7 (in), 27 IN 8 (in), 28 VCC (power)

## f42va12
designator U?
CMOS Programmable Multi-Function PLD; Published: 16-Jul-2002; LatestRevisionDate: 17-Jul-2002; LatestRevisionNote: Re-released for DXP Platform.; Publisher: Altium Limited
pins: 1 CLK/IN0 (in), 2 IN 1 (in), 3 IN 2 (in), 4 IN 3 (in), 5 IN 4 (in), 6 IN 5 (in), 7 IN 6 (in), 8 IN 7 (in), 9 IN 8 (in), 10 B0 (io), 11 B1 (io), 12 GND (power), 13 IN9~{/OE} (in), 14 M0 (out), 15 M1 (out), 16 M2 (out), 17 M3 (out), 18 M4 (out), 19 M5 (out), 20 M6 (out), 21 M7 (out), 22 M8 (out), 23 M9 (out), 24 VCC (power)

## f42va12lcc
designator U?
CMOS Programmable Multi-Function PLD (42x105x12); Published: 16-Jul-2002; LatestRevisionDate: 17-Jul-2002; LatestRevisionNote: Re-released for DXP Platform.; Publisher: Altium Limited
pins: 1 NC, 2 IN 0/CLK (in), 3 IN 1 (in), 4 IN 2 (in), 5 IN 3 (in), 6 IN 4 (in), 7 IN 5 (in), 8 NC, 9 IN 6 (in), 10 IN 7 (in), 11 IN 8 (in), 12 B 0 (io), 13 B 1 (io), 14 GND (power), 15 NC, 16 IN 9~{/OE} (in), 17 M 0 (out), 18 M 1 (out), 19 M 2 (out), 20 M 3 (io), 21 M 4 (out), 22 NC, 23 M 5 (out), 24 M 6 (out), 25 M 7 (out), 26 M 8, 27 M 9 (io), 28 VCC (power)

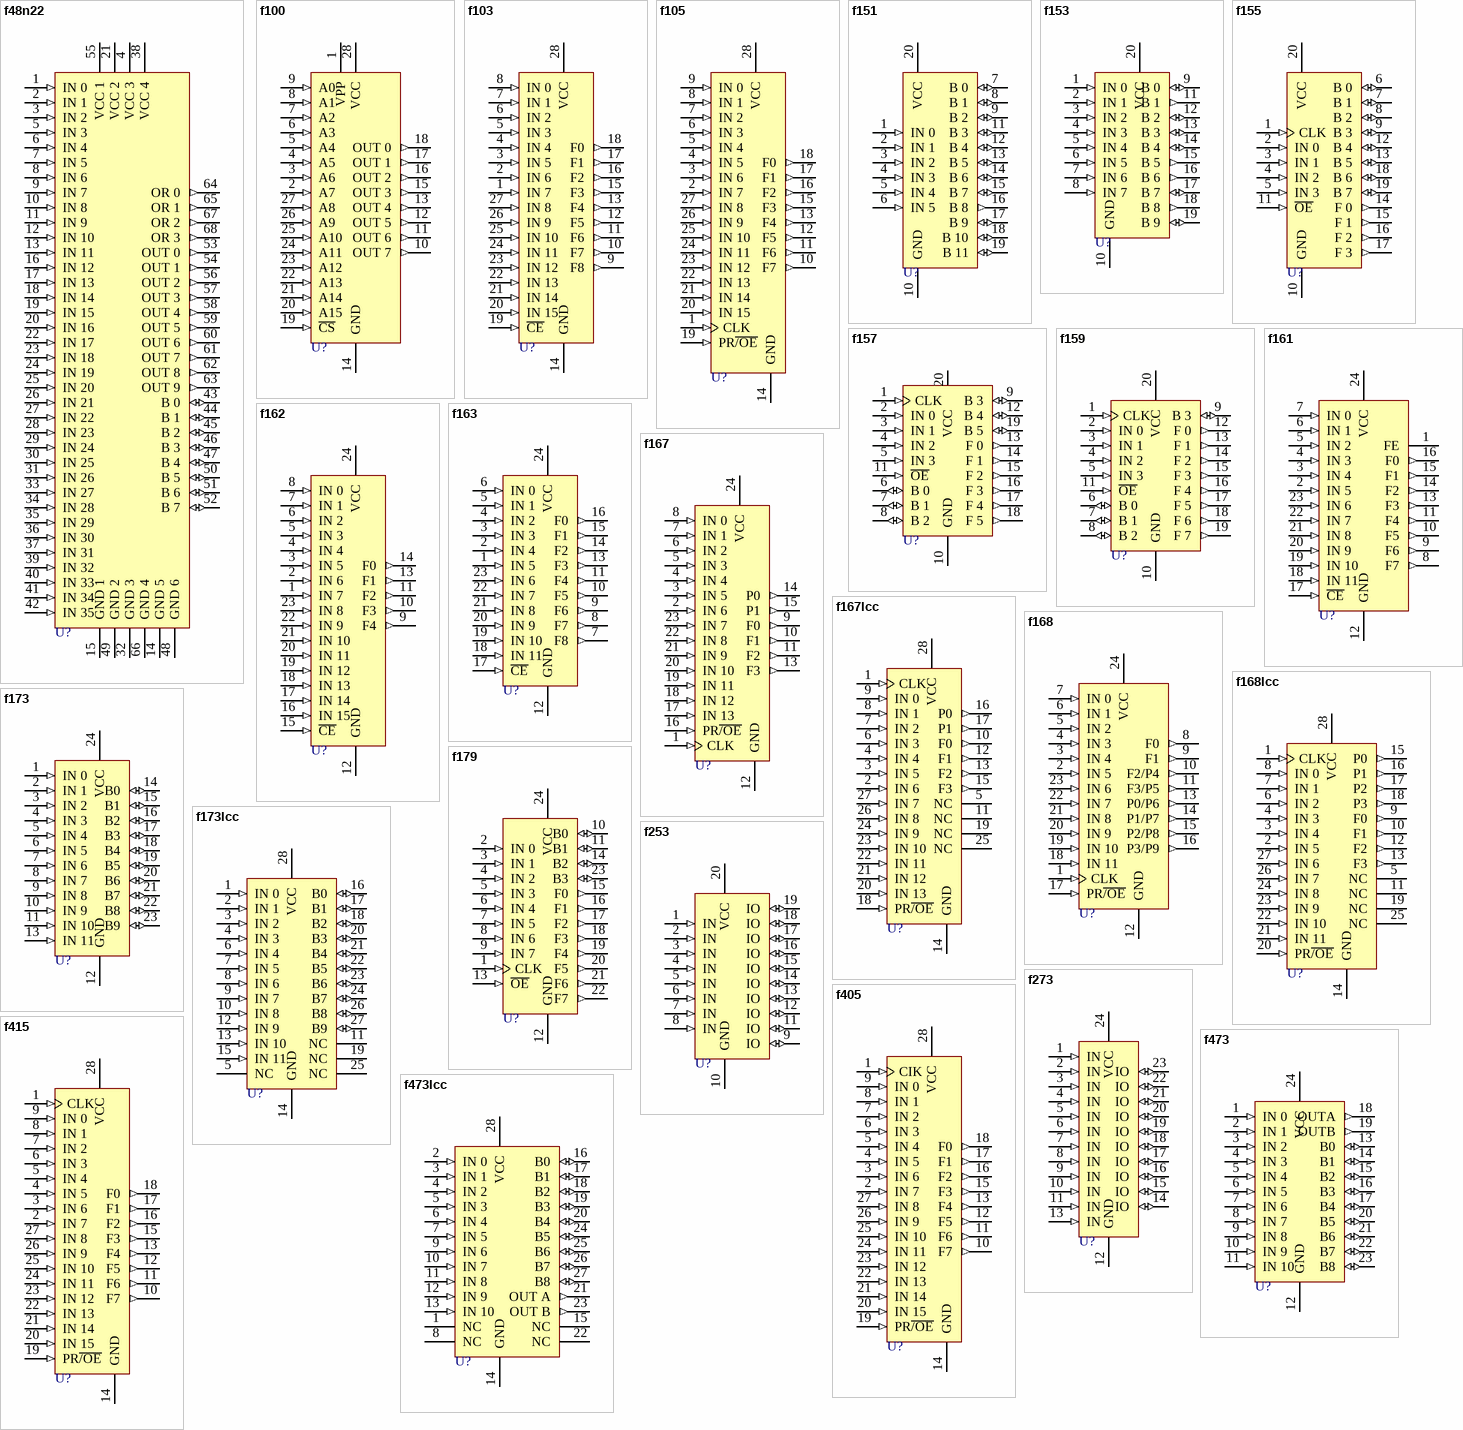
[diagram p2: symbols f48n22 to f473lcc]

## f48n22
designator U?
Programmable High-Speed Decoder Logic (48x73x22); Published: 16-Jul-2002; LatestRevisionDate: 17-Jul-2002; LatestRevisionNote: Re-released for DXP Platform.; Publisher: Altium Limited
pins: 1 IN 0 (in), 2 IN 1 (in), 3 IN 2 (in), 4 VCC 3 (power), 5 IN 3 (in), 6 IN 4 (in), 7 IN 5 (in), 8 IN 6 (in), 9 IN 7 (in), 10 IN 8 (in), 11 IN 9 (in), 12 IN 10 (in), 13 IN 11 (in), 14 GND 5 (power), 15 GND 1 (power), 16 IN 12 (in), 17 IN 13 (in), 18 IN 14 (in), 19 IN 15 (in), 20 IN 16 (in), 21 VCC 2 (power), 22 IN 17 (in), 23 IN 18 (in), 24 IN 19 (in), 25 IN 20 (in), 26 IN 21 (in), 27 IN 22 (in), 28 IN 23 (in), 29 IN 24 (in), 30 IN 25 (in), 31 IN 26 (in), 32 GND 3 (power), 33 IN 27 (in), 34 IN 28 (in), 35 IN 29 (in), 36 IN 30 (in), 37 IN 31 (in), 38 VCC 4 (power), 39 IN 32 (in), 40 IN 33 (in), 41 IN 34 (in), 42 IN 35 (in), 43 B 0 (io), 44 B 1 (io), 45 B 2 (io), 46 B 3 (io), 47 B 4 (io), 48 GND 6 (power), 49 GND 2 (power), 50 B 5 (io), 51 B 6 (io), 52 B 7 (io), 53 OUT 0 (out), 54 OUT 1 (out), 55 VCC 1 (power), 56 OUT 2 (out), 57 OUT 3 (out), 58 OUT 4 (out), 59 OUT 5 (out), 60 OUT 6 (out), 61 OUT 7 (out), 62 OUT 8 (out), 63 OUT 9 (out), 64 OR 0 (out), 65 OR 1 (out), 66 GND 4 (power), 67 OR 2 (out), 68 OR 3 (out)

## f100
designator U?
Field Programmable Gate Array; Published: 16-Jul-2002; LatestRevisionDate: 17-Jul-2002; LatestRevisionNote: Re-released for DXP Platform.; Publisher: Altium Limited
pins: 1 VPP (power), 2 A7 (in), 3 A6 (in), 4 A5 (in), 5 A4 (in), 6 A3 (in), 7 A2 (in), 8 A1 (in), 9 A0 (in), 10 OUT 7 (out), 11 OUT 6 (out), 12 OUT 5 (out), 13 OUT 4 (out), 14 GND (power), 15 OUT 3 (out), 16 OUT 2 (out), 17 OUT 1 (out), 18 OUT 0 (out), 19 ~{CS} (in), 20 A15 (in), 21 A14 (in), 22 A13 (in), 23 A12 (in), 24 A11 (in), 25 A10 (in), 26 A9 (in), 27 A8 (in), 28 VCC (power)

## f103
designator U?
Field-Programmable Array (16x9x9); Published: 16-Jul-2002; LatestRevisionDate: 17-Jul-2002; LatestRevisionNote: Re-released for DXP Platform.; Publisher: Altium Limited
pins: 1 IN 7 (in), 2 IN 6 (in), 3 IN 5 (in), 4 IN 4 (in), 5 IN 3 (in), 6 IN 2 (in), 7 IN 1 (in), 8 IN 0 (in), 9 F8 (out), 10 F7 (out), 11 F6 (out), 12 F5 (out), 13 F4 (out), 14 GND (power), 15 F3 (out), 16 F2 (out), 17 F1 (out), 18 F0 (out), 19 ~{CE} (in), 20 IN 15 (in), 21 IN 14 (in), 22 IN 13 (in), 23 IN 12 (in), 24 IN 11 (in), 25 IN 10 (in), 26 IN 9 (in), 27 IN 8 (in), 28 VCC (power)

## f105
designator U?
Programmable Logic Sequencers (16x48x8); Published: 16-Jul-2002; LatestRevisionDate: 17-Jul-2002; LatestRevisionNote: Re-released for DXP Platform.; Publisher: Altium Limited
pins: 1 CLK (in), 2 IN 7 (in), 3 IN 6 (in), 4 IN 5 (in), 5 IN 4 (in), 6 IN 3 (in), 7 IN 2 (in), 8 IN 1 (in), 9 IN 0 (in), 10 F7 (out), 11 F6 (out), 12 F5 (out), 13 F4 (out), 14 GND (power), 15 F3 (out), 16 F2 (out), 17 F1 (out), 18 F0 (out), 19 PR~{/OE} (in), 20 IN 15 (in), 21 IN 14 (in), 22 IN 13 (in), 23 IN 12 (in), 24 IN 11 (in), 25 IN 10 (in), 26 IN 9 (in), 27 IN 8 (in), 28 VCC (power)

## f151
designator U?
Programmable Logic; Published: 16-Jul-2002; LatestRevisionDate: 17-Jul-2002; LatestRevisionNote: Re-released for DXP Platform.; Publisher: Altium Limited
pins: 1 IN 0 (in), 2 IN 1 (in), 3 IN 2 (in), 4 IN 3 (in), 5 IN 4 (in), 6 IN 5 (in), 7 B 0 (io), 8 B 1 (io), 9 B 2 (io), 10 GND (power), 11 B 3 (io), 12 B 4 (io), 13 B 5 (io), 14 B 6 (io), 15 B 7 (io), 16 B 8 (out), 17 B 9 (io), 18 B 10 (io), 19 B 11 (io), 20 VCC (power)

## f153
designator U?
Programmable Logic Array (18x42x10); Published: 16-Jul-2002; LatestRevisionDate: 17-Jul-2002; LatestRevisionNote: Re-released for DXP Platform.; Publisher: Altium Limited
pins: 1 IN 0 (in), 2 IN 1 (in), 3 IN 2 (in), 4 IN 3 (in), 5 IN 4 (in), 6 IN 5 (in), 7 IN 6 (in), 8 IN 7 (in), 9 B 0 (io), 10 GND (power), 11 B 1 (out), 12 B 2 (io), 13 B 3 (io), 14 B 4 (io), 15 B 5 (out), 16 B 6 (out), 17 B 7 (io), 18 B 8 (out), 19 B 9 (io), 20 VCC (power)

## f155
designator U?
Programmable Logic Sequencer (16x45x12); Published: 16-Jul-2002; LatestRevisionDate: 17-Jul-2002; LatestRevisionNote: Re-released for DXP Platform.; Publisher: Altium Limited
pins: 1 CLK (in), 2 IN 0 (in), 3 IN 1 (in), 4 IN 2 (in), 5 IN 3 (in), 6 B 0 (io), 7 B 1 (io), 8 B 2 (io), 9 B 3 (io), 10 GND (power), 11 ~{OE} (in), 12 B 4 (io), 13 B 5 (io), 14 F 0 (out), 15 F 1 (out), 16 F 2 (out), 17 F 3 (out), 18 B 6 (io), 19 B 7 (io), 20 VCC (power)

## f157
designator U?
Programmable Logic Sequencer (16x45x12); Published: 16-Jul-2002; LatestRevisionDate: 17-Jul-2002; LatestRevisionNote: Re-released for DXP Platform.; Publisher: Altium Limited
pins: 1 CLK (in), 2 IN 0 (in), 3 IN 1 (in), 4 IN 2 (in), 5 IN 3 (in), 6 B 0 (io), 7 B 1 (io), 8 B 2 (io), 9 B 3 (io), 10 GND (power), 11 ~{OE} (in), 12 B 4 (io), 13 F 0 (out), 14 F 1 (out), 15 F 2 (out), 16 F 3 (out), 17 F 4 (out), 18 F 5 (out), 19 B 5 (io), 20 VCC (power)

## f159
designator U?
Programmable Logic Sequencer (16x45x12); Published: 16-Jul-2002; LatestRevisionDate: 17-Jul-2002; LatestRevisionNote: Re-released for DXP Platform.; Publisher: Altium Limited
pins: 1 CLK (in), 2 IN 0 (in), 3 IN 1 (in), 4 IN 2 (in), 5 IN 3 (in), 6 B 0 (io), 7 B 1 (io), 8 B 2 (io), 9 B 3 (io), 10 GND (power), 11 ~{OE} (in), 12 F 0 (out), 13 F 1 (out), 14 F 2 (out), 15 F 3 (out), 16 F 4 (out), 17 F 5 (out), 18 F 6 (out), 19 F 7 (out), 20 VCC (power)

## f161
designator U?
Field-Programmable Logic Array (12x48x8); Published: 16-Jul-2002; LatestRevisionDate: 17-Jul-2002; LatestRevisionNote: Re-released for DXP Platform.; Publisher: Altium Limited
pins: 1 FE, 2 IN 5 (in), 3 IN 4 (in), 4 IN 3 (in), 5 IN 2 (in), 6 IN 1 (in), 7 IN 0 (in), 8 F7 (out), 9 F6 (out), 10 F5 (out), 11 F4 (out), 12 GND (power), 13 F3 (out), 14 F2 (out), 15 F1 (out), 16 F0 (out), 17 ~{CE} (in), 18 IN 11 (in), 19 IN 10 (in), 20 IN 9 (in), 21 IN 8 (in), 22 IN 7 (in), 23 IN 6 (in), 24 VCC (power)

## f162
designator U?
Field-Programmable Address Decoder (16x5); Published: 16-Jul-2002; LatestRevisionDate: 17-Jul-2002; LatestRevisionNote: Re-released for DXP Platform.; Publisher: Altium Limited
pins: 1 IN 7 (in), 2 IN 6 (in), 3 IN 5 (in), 4 IN 4 (in), 5 IN 3 (in), 6 IN 2 (in), 7 IN 1 (in), 8 IN 0 (in), 9 F4 (out), 10 F3 (out), 11 F2 (out), 12 GND (power), 13 F1 (out), 14 F0 (out), 15 ~{CE} (in), 16 IN 15 (in), 17 IN 14 (in), 18 IN 13 (in), 19 IN 12 (in), 20 IN 11 (in), 21 IN 10 (in), 22 IN 9 (in), 23 IN 8 (in), 24 VCC (power)

## f163
designator U?
Field-Programmable Address Decoder (12x9); Published: 16-Jul-2002; LatestRevisionDate: 17-Jul-2002; LatestRevisionNote: Re-released for DXP Platform.; Publisher: Altium Limited
pins: 1 IN 5 (in), 2 IN 4 (in), 3 IN 3 (in), 4 IN 2 (in), 5 IN 1 (in), 6 IN 0 (in), 7 F8 (out), 8 F7 (out), 9 F6 (out), 10 F5 (out), 11 F4 (out), 12 GND (power), 13 F3 (out), 14 F2 (out), 15 F1 (out), 16 F0 (out), 17 ~{CE} (in), 18 IN 11 (in), 19 IN 10 (in), 20 IN 9 (in), 21 IN 8 (in), 22 IN 7 (in), 23 IN 6 (in), 24 VCC (power)

## f167
designator U?
Programmable Logic Sequencer (14x48x6); Published: 16-Jul-2002; LatestRevisionDate: 17-Jul-2002; LatestRevisionNote: Re-released for DXP Platform.; Publisher: Altium Limited
pins: 1 CLK (in), 2 IN 6 (in), 3 IN 5 (in), 4 IN 4 (in), 5 IN 3 (in), 6 IN 2 (in), 7 IN 1 (in), 8 IN 0 (in), 9 F0 (out), 10 F1 (out), 11 F2 (out), 12 GND (power), 13 F3 (out), 14 P0 (out), 15 P1 (out), 16 PR~{/OE} (in), 17 IN 13 (in), 18 IN 12 (in), 19 IN 11 (in), 20 IN 10 (in), 21 IN 9 (in), 22 IN 8 (in), 23 IN 7 (in), 24 VCC (power)

## f167lcc
designator U?
Programmable Logic Sequencer (14x48x6); Published: 16-Jul-2002; LatestRevisionDate: 17-Jul-2002; LatestRevisionNote: Re-released for DXP Platform.; Publisher: Altium Limited
pins: 1 CLK (in), 2 IN 6 (in), 3 IN 5 (in), 4 IN 4 (in), 5 NC, 6 IN 3 (in), 7 IN 2 (in), 8 IN 1 (in), 9 IN 0 (in), 10 F0 (out), 11 NC, 12 F1 (out), 13 F2 (out), 14 GND (power), 15 F3 (out), 16 P0 (out), 17 P1 (out), 18 PR~{/OE} (in), 19 NC, 20 IN 13 (in), 21 IN 12 (in), 22 IN 11 (in), 23 IN 10 (in), 24 IN 9 (in), 25 NC, 26 IN 8 (in), 27 IN 7 (in), 28 VCC (power)

## f168
designator U?
Field-Programmable Logic Sequencer (12x48x8); Published: 16-Jul-2002; LatestRevisionDate: 17-Jul-2002; LatestRevisionNote: Re-released for DXP Platform.; Publisher: Altium Limited
pins: 1 CLK (in), 2 IN 5 (in), 3 IN 4 (in), 4 IN 3 (in), 5 IN 2 (in), 6 IN 1 (in), 7 IN 0 (in), 8 F0 (out), 9 F1 (out), 10 F2/P4 (out), 11 F3/P5 (out), 12 GND (power), 13 P0/P6 (out), 14 P1/P7 (out), 15 P2/P8 (out), 16 P3/P9 (out), 17 PR~{/OE} (in), 18 IN 11 (in), 19 IN 10 (in), 20 IN 9 (in), 21 IN 8 (in), 22 IN 7 (in), 23 IN 6 (in), 24 VCC (power)

## f168lcc
designator U?
Field-Programmable Logic Sequencer (12x48x8); Published: 16-Jul-2002; LatestRevisionDate: 17-Jul-2002; LatestRevisionNote: Re-released for DXP Platform.; Publisher: Altium Limited
pins: 1 CLK (in), 2 IN 5 (in), 3 IN 4 (in), 4 IN 3 (in), 5 NC, 6 IN 2 (in), 7 IN 1 (in), 8 IN 0 (in), 9 F0 (out), 10 F1 (out), 11 NC, 12 F2 (out), 13 F3 (out), 14 GND (power), 15 P0 (out), 16 P1 (out), 17 P2 (out), 18 P3 (out), 19 NC, 20 PR~{/OE} (in), 21 IN 11 (in), 22 IN 10 (in), 23 IN 9 (in), 24 IN 8 (in), 25 NC, 26 IN 7 (in), 27 IN 6 (in), 28 VCC (power)

## f173
designator U?
Programmable Logic Array (22x42x10); Published: 16-Jul-2002; LatestRevisionDate: 17-Jul-2002; LatestRevisionNote: Re-released for DXP Platform.; Publisher: Altium Limited
pins: 1 IN 0 (in), 2 IN 1 (in), 3 IN 2 (in), 4 IN 3 (in), 5 IN 4 (in), 6 IN 5 (in), 7 IN 6 (in), 8 IN 7 (in), 9 IN 8 (in), 10 IN 9 (in), 11 IN 10 (in), 12 GND (power), 13 IN 11 (in), 14 B0 (io), 15 B1 (io), 16 B2 (io), 17 B3 (io), 18 B4 (io), 19 B5 (io), 20 B6 (io), 21 B7 (io), 22 B8 (io), 23 B9 (io), 24 VCC (power)

## f173lcc
designator U?
Programmable Logic Array (22x42x10); Published: 16-Jul-2002; LatestRevisionDate: 17-Jul-2002; LatestRevisionNote: Re-released for DXP Platform.; Publisher: Altium Limited
pins: 1 IN 0 (in), 2 IN 1 (in), 3 IN 2 (in), 4 IN 3 (in), 5 NC, 6 IN 4 (in), 7 IN 5 (in), 8 IN 6 (in), 9 IN 7 (in), 10 IN 8 (in), 11 NC, 12 IN 9 (in), 13 IN 10 (in), 14 GND (power), 15 IN 11 (in), 16 B0 (io), 17 B1 (io), 18 B2 (io), 19 NC, 20 B3 (io), 21 B4 (io), 22 B5 (io), 23 B6 (io), 24 B7 (io), 25 NC, 26 B8 (io), 27 B9 (io), 28 VCC (power)

## f179
designator U?
Programmable Logic Sequencer (20x45x12); Published: 16-Jul-2002; LatestRevisionDate: 17-Jul-2002; LatestRevisionNote: Re-released for DXP Platform.; Publisher: Altium Limited
pins: 1 CLK (in), 2 IN 0 (in), 3 IN 1 (in), 4 IN 2 (in), 5 IN 3 (in), 6 IN 4 (in), 7 IN 5 (in), 8 IN 6 (in), 9 IN 7 (in), 10 B0 (io), 11 B1 (io), 12 GND (power), 13 ~{OE} (in), 14 B2 (io), 15 F0 (out), 16 F1 (out), 17 F2 (out), 18 F3 (out), 19 F4 (out), 20 F5 (out), 21 F6 (out), 22 F7 (out), 23 B3 (io), 24 VCC (power)

## f253
designator U?
CMOS Programmable Electrically Erasable Logic Device; Published: 16-Jul-2002; LatestRevisionDate: 17-Jul-2002; LatestRevisionNote: Re-released for DXP Platform.; Publisher: Altium Limited
pins: 1 IN (in), 2 IN (in), 3 IN (in), 4 IN (in), 5 IN (in), 6 IN (in), 7 IN (in), 8 IN (in), 9 IO (io), 10 GND (power), 11 IO (io), 12 IO (io), 13 IO (io), 14 IO (io), 15 IO (io), 16 IO (io), 17 IO (io), 18 IO (io), 19 IO (io), 20 VCC (power)

## f273
designator U?
CMOS Programmable Electrically Erasable Logic Device; Published: 16-Jul-2002; LatestRevisionDate: 17-Jul-2002; LatestRevisionNote: Re-released for DXP Platform.; Publisher: Altium Limited
footprint DIP-24/D32.3
pins: 1 IN (in), 2 IN (in), 3 IN (in), 4 IN (in), 5 IN (in), 6 IN (in), 7 IN (in), 8 IN (in), 9 IN (in), 10 IN (in), 11 IN (in), 12 GND (power), 13 IN (in), 14 IO (io), 15 IO (io), 16 IO (io), 17 IO (io), 18 IO (io), 19 IO (io), 20 IO (io), 21 IO (io), 22 IO (io), 23 IO (io), 24 VCC (power)

## f405
designator U?
Programmable Logic Sequencers (16x64x8); Published: 16-Jul-2002; LatestRevisionDate: 17-Jul-2002; LatestRevisionNote: Re-released for DXP Platform.; Publisher: Altium Limited
pins: 1 CIK (in), 2 IN 7 (in), 3 IN 6 (in), 4 IN 5 (in), 5 IN 4 (in), 6 IN 3 (in), 7 IN 2 (in), 8 IN 1 (in), 9 IN 0 (in), 10 F7 (out), 11 F6 (out), 12 F5 (out), 13 F4 (out), 14 GND (power), 15 F3 (out), 16 F2 (out), 17 F1 (out), 18 F0 (out), 19 PR~{/OE} (in), 20 IN 15 (in), 21 IN 14 (in), 22 IN 13 (in), 23 IN 12 (in), 24 IN 11 (in), 25 IN 10 (in), 26 IN 9 (in), 27 IN 8 (in), 28 VCC (power)

## f415
designator U?
CMOS Programmable Logic Sequencer (17x68x8); Published: 16-Jul-2002; LatestRevisionDate: 17-Jul-2002; LatestRevisionNote: Re-released for DXP Platform.; Publisher: Altium Limited
pins: 1 CLK (in), 2 IN 7 (in), 3 IN 6 (in), 4 IN 5 (in), 5 IN 4 (in), 6 IN 3 (in), 7 IN 2 (in), 8 IN 1 (in), 9 IN 0 (in), 10 F7 (out), 11 F6 (out), 12 F5 (out), 13 F4 (out), 14 GND (power), 15 F3 (out), 16 F2 (out), 17 F1 (out), 18 F0 (out), 19 PR~{/OE} (in), 20 IN 15 (in), 21 IN 14 (in), 22 IN 13 (in), 23 IN 12 (in), 24 IN 11 (in), 25 IN 10 (in), 26 IN 9 (in), 27 IN 8 (in), 28 VCC (power)

## f473
designator U?
Erasable and O.T.P Programmable Logic Array; Published: 16-Jul-2002; LatestRevisionDate: 17-Jul-2002; LatestRevisionNote: Re-released for DXP Platform.; Publisher: Altium Limited
pins: 1 IN 0 (in), 2 IN 1 (in), 3 IN 2 (in), 4 IN 3 (in), 5 IN 4 (in), 6 IN 5 (in), 7 IN 6 (in), 8 IN 7 (in), 9 IN 8 (in), 10 IN 9 (in), 11 IN 10 (in), 12 GND (power), 13 B0 (io), 14 B1 (io), 15 B2 (io), 16 B3 (io), 17 B4 (io), 18 OUTA (out), 19 OUTB (out), 20 B5 (io), 21 B6 (io), 22 B7 (io), 23 B8 (io), 24 VCC (power)

## f473lcc
designator U?
20x24x11 Erasable and O.T.P. Programmable Logic Array; Published: 16-Jul-2002; LatestRevisionDate: 17-Jul-2002; LatestRevisionNote: Re-released for DXP Platform.; Publisher: Altium Limited
pins: 1 NC, 2 IN 0 (in), 3 IN 1 (in), 4 IN 2 (in), 5 IN 3 (in), 6 IN 4 (in), 7 IN 5 (in), 8 NC, 9 IN 6 (in), 10 IN 7 (in), 11 IN 8 (in), 12 IN 9 (in), 13 IN 10 (in), 14 GND (power), 15 NC, 16 B0 (io), 17 B1 (io), 18 B2 (io), 19 B3 (io), 20 B4 (io), 21 OUT A (out), 22 NC, 23 OUT B (out), 24 B5 (io), 25 B6 (io), 26 B7 (io), 27 B8 (io), 28 VCC (power)

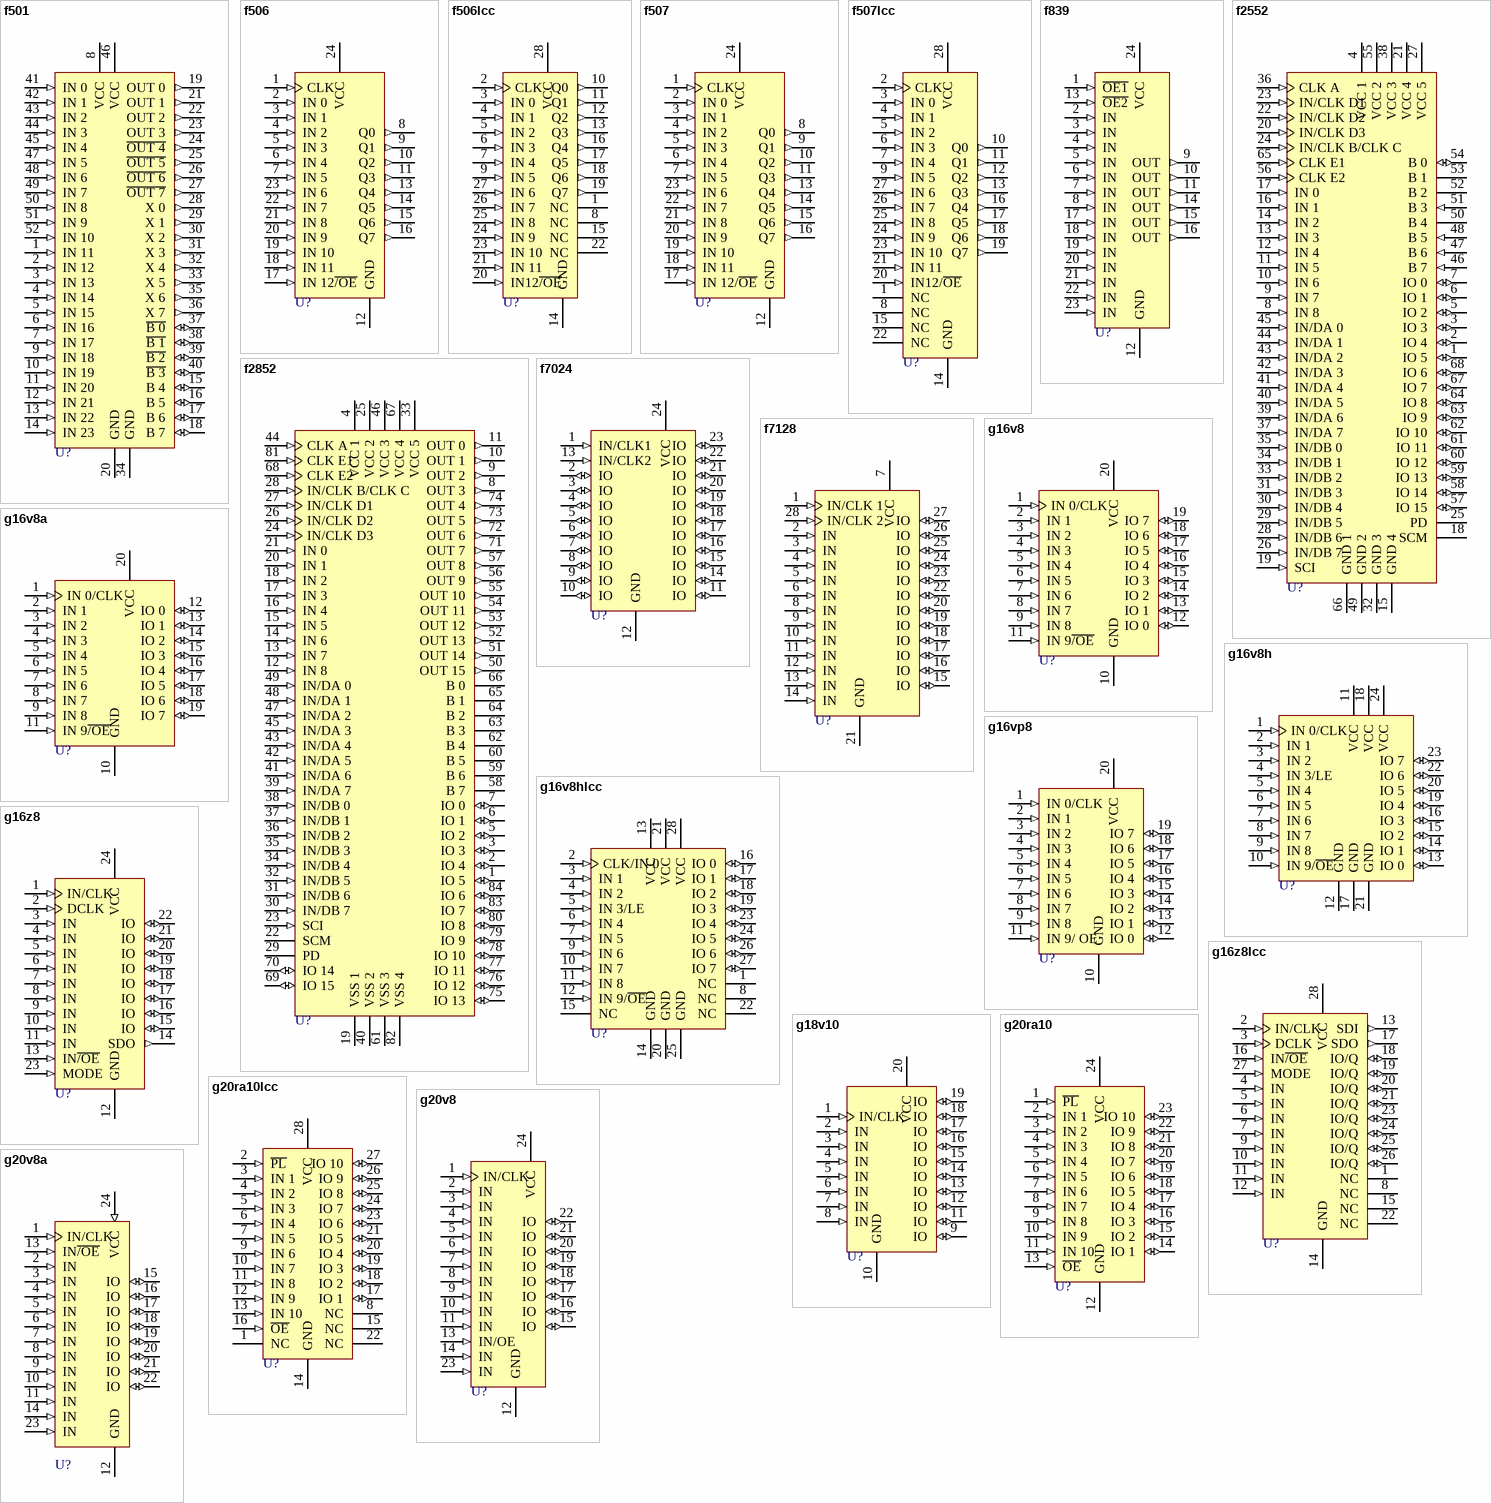
[diagram p3: symbols f501 to g20v8a]

## f501
designator U?
Programmable Macro Logic (PML); Published: 16-Jul-2002; LatestRevisionDate: 17-Jul-2002; LatestRevisionNote: Re-released for DXP Platform.; Publisher: Altium Limited
pins: 1 IN 11 (in), 2 IN 12 (in), 3 IN 13 (in), 4 IN 14 (in), 5 IN 15 (in), 6 IN 16 (in), 7 IN 17 (in), 8 VCC (power), 9 IN 18 (in), 10 IN 19 (in), 11 IN 20 (in), 12 IN 21 (in), 13 IN 22 (in), 14 IN 23 (in), 15 B 4 (io), 16 B 5 (io), 17 B 6 (io), 18 B 7 (io), 19 OUT 0 (out), 20 GND (power), 21 OUT 1 (out), 22 OUT 2 (out), 23 OUT 3 (out), 24 ~{OUT 4} (out), 25 ~{OUT 5} (out), 26 ~{OUT 6} (out), 27 ~{OUT 7} (out), 28 X 0 (out), 29 X 1 (out), 30 X 2 (out), 31 X 3 (out), 32 X 4 (out), 33 X 5 (out), 34 GND (power), 35 X 6 (out), 36 X 7 (out), 37 ~{B 0} (io), 38 ~{B 1} (io), 39 ~{B 2} (io), 40 ~{B 3} (io), 41 IN 0 (in), 42 IN 1 (in), 43 IN 2 (in), 44 IN 3 (in), 45 IN 4 (in), 46 VCC (power), 47 IN 5 (in), 48 IN 6 (in), 49 IN 7 (in), 50 IN 8 (in), 51 IN 9 (in), 52 IN 10 (in)

## f506
designator U?
Field Programmable Logic Sequencer (13x97x8); Published: 16-Jul-2002; LatestRevisionDate: 17-Jul-2002; LatestRevisionNote: Re-released for DXP Platform.; Publisher: Altium Limited
pins: 1 CLK (in), 2 IN 0 (in), 3 IN 1 (in), 4 IN 2 (in), 5 IN 3 (in), 6 IN 4 (in), 7 IN 5 (in), 8 Q0 (out), 9 Q1 (out), 10 Q2 (out), 11 Q3 (out), 12 GND (power), 13 Q4 (out), 14 Q5 (out), 15 Q6 (out), 16 Q7 (out), 17 IN 12~{/OE} (in), 18 IN 11 (in), 19 IN 10 (in), 20 IN 9 (in), 21 IN 8 (in), 22 IN 7 (in), 23 IN 6 (in), 24 VCC (power)

## f506lcc
designator U?
Field Programmable Logic Sequencer (13x97x8); Published: 16-Jul-2002; LatestRevisionDate: 17-Jul-2002; LatestRevisionNote: Re-released for DXP Platform.; Publisher: Altium Limited
pins: 1 NC, 2 CLK (in), 3 IN 0 (in), 4 IN 1 (in), 5 IN 2 (in), 6 IN 3 (in), 7 IN 4 (in), 8 NC, 9 IN 5 (in), 10 Q0 (out), 11 Q1 (out), 12 Q2 (out), 13 Q3 (out), 14 GND (power), 15 NC, 16 Q4 (out), 17 Q5 (out), 18 Q6 (out), 19 Q7 (out), 20 IN12~{/OE} (in), 21 IN 11 (in), 22 NC, 23 IN 10 (in), 24 IN 9 (in), 25 IN 8 (in), 26 IN 7 (in), 27 IN 6 (in), 28 VCC (power)

## f507
designator U?
Field Programmable Logic Sequencer (13x97x8); Published: 16-Jul-2002; LatestRevisionDate: 17-Jul-2002; LatestRevisionNote: Re-released for DXP Platform.; Publisher: Altium Limited
pins: 1 CLK (in), 2 IN 0 (in), 3 IN 1 (in), 4 IN 2 (in), 5 IN 3 (in), 6 IN 4 (in), 7 IN 5 (in), 8 Q0 (out), 9 Q1 (out), 10 Q2 (out), 11 Q3 (out), 12 GND (power), 13 Q4 (out), 14 Q5 (out), 15 Q6 (out), 16 Q7 (out), 17 IN 12/~{OE} (in), 18 IN 11 (in), 19 IN 10 (in), 20 IN 9 (in), 21 IN 8 (in), 22 IN 7 (in), 23 IN 6 (in), 24 VCC (power)

## f507lcc
designator U?
Field Programmable Logic Sequencer (13x80x8); Published: 16-Jul-2002; LatestRevisionDate: 17-Jul-2002; LatestRevisionNote: Re-released for DXP Platform.; Publisher: Altium Limited
pins: 1 NC, 2 CLK (in), 3 IN 0 (in), 4 IN 1 (in), 5 IN 2 (in), 6 IN 3 (in), 7 IN 4 (in), 8 NC, 9 IN 5 (in), 10 Q0 (out), 11 Q1 (out), 12 Q2 (out), 13 Q3 (out), 14 GND (power), 15 NC, 16 Q4 (out), 17 Q5 (out), 18 Q6 (out), 19 Q7 (out), 20 IN12/~{OE} (in), 21 IN 11 (in), 22 NC, 23 IN 10 (in), 24 IN 9 (in), 25 IN 8 (in), 26 IN 7 (in), 27 IN 6 (in), 28 VCC (power)

## f839
designator U?
Field-Programmable Logic Array (14x32x6); Published: 16-Jul-2002; LatestRevisionDate: 17-Jul-2002; LatestRevisionNote: Re-released for DXP Platform.; Publisher: Altium Limited
pins: 1 ~{OE1} (in), 2 IN (in), 3 IN (in), 4 IN (in), 5 IN (in), 6 IN (in), 7 IN (in), 8 IN (in), 9 OUT (out), 10 OUT (out), 11 OUT (out), 12 GND (power), 13 ~{OE2} (in), 14 OUT (out), 15 OUT (out), 16 OUT (out), 17 IN (in), 18 IN (in), 19 IN (in), 20 IN (in), 21 IN (in), 22 IN (in), 23 IN (in), 24 VCC (power)

## f2552
designator U?
CMOS High-Density Programmable Macro Logic; Published: 16-Jul-2002; LatestRevisionDate: 17-Jul-2002; LatestRevisionNote: Re-released for DXP Platform.; Publisher: Altium Limited
pins: 1 IO 5 (io), 2 IO 4 (io), 3 IO 3 (io), 4 VCC 1 (power), 5 IO 2 (io), 6 IO 1 (io), 7 IO 0 (io), 8 IN 8 (in), 9 IN 7 (in), 10 IN 6 (in), 11 IN 5 (in), 12 IN 4 (in), 13 IN 3 (in), 14 IN 2 (in), 15 GND 4 (power), 16 IN 1 (in), 17 IN 0 (in), 18 SCM, 19 SCI (in), 20 IN/CLK D3 (in), 21 VCC 4 (power), 22 IN/CLK D2 (in), 23 IN/CLK D1 (in), 24 IN/CLK B/CLK C (in), 25 PD, 26 IN/DB 7 (in), 27 VCC 5 (power), 28 IN/DB 6 (in), 29 IN/DB 5 (in), 30 IN/DB 4 (in), 31 IN/DB 3 (in), 32 GND 3 (power), 33 IN/DB 2 (in), 34 IN/DB 1 (in), 35 IN/DB 0 (in), 36 CLK A (in), 37 IN/DA 7 (in), 38 VCC 3 (power), 39 IN/DA 6 (in), 40 IN/DA 5 (in), 41 IN/DA 4 (in), 42 IN/DA 3 (in), 43 IN/DA 2 (in), 44 IN/DA 1 (in), 45 IN/DA 0 (in), 46 B 7 (in), 47 B 6 (in), 48 B 5 (in), 49 GND 2 (power), 50 B 4, 51 B 3 (in), 52 B 2, 53 B 1, 54 B 0 (io), 55 VCC 2 (power), 56 CLK E2 (in), 57 IO 15 (io), 58 IO 14 (io), 59 IO 13 (io), 60 IO 12 (io), 61 IO 11 (io), 62 IO 10 (io), 63 IO 9 (io), 64 IO 8 (io), 65 CLK E1 (in), 66 GND 1 (power), 67 IO 7 (io), 68 IO 6 (io)

## f2852
designator U?
CMOS High-Density Programmable Macro Logic; Published: 16-Jul-2002; LatestRevisionDate: 17-Jul-2002; LatestRevisionNote: Re-released for DXP Platform.; Publisher: Altium Limited
pins: 1 IO 5 (io), 2 IO 4 (io), 3 IO 3 (io), 4 VCC 1 (power), 5 IO 2 (io), 6 IO 1 (io), 7 IO 0 (io), 8 OUT 3 (out), 9 OUT 2 (out), 10 OUT 1 (out), 11 OUT 0 (out), 12 IN 8 (in), 13 IN 7 (in), 14 IN 6 (in), 15 IN 5 (in), 16 IN 4 (in), 17 IN 3 (in), 18 IN 2 (in), 19 VSS 1 (power), 20 IN 1 (in), 21 IN 0 (in), 22 SCM, 23 SCI (in), 24 IN/CLK D3 (in), 25 VCC 2 (power), 26 IN/CLK D2 (in), 27 IN/CLK D1 (in), 28 IN/CLK B/CLK C (in), 29 PD, 30 IN/DB 7 (in), 31 IN/DB 6 (in), 32 IN/DB 5 (in), 33 VCC 5 (power), 34 IN/DB 4 (in), 35 IN/DB 3 (in), 36 IN/DB 2 (in), 37 IN/DB 1 (in), 38 IN/DB 0 (in), 39 IN/DA 7 (in), 40 VSS 2 (power), 41 IN/DA 6 (in), 42 IN/DA 5 (in), 43 IN/DA 4 (in), 44 CLK A (in), 45 IN/DA 3 (in), 46 VCC 3 (power), 47 IN/DA 2 (in), 48 IN/DA 1 (in), 49 IN/DA 0 (in), 50 OUT 15 (out), 51 OUT 14 (out), 52 OUT 13 (out), 53 OUT 12 (out), 54 OUT 11 (out), 55 OUT 10 (out), 56 OUT 9 (out), 57 OUT 8 (out), 58 B 7, 59 B 6, 60 B 5, 61 VSS 3 (power), 62 B 4, 63 B 3, 64 B 2, 65 B 1, 66 B 0, 67 VCC 4 (power), 68 CLK E2 (in), 69 IO 15 (io), 70 IO 14 (io), 71 OUT 7 (out), 72 OUT 6 (out), 73 OUT 5 (out), 74 OUT 4 (out), 75 IO 13 (io), 76 IO 12 (io), 77 IO 11 (io), 78 IO 10 (io), 79 IO 9 (io), 80 IO 8 (io), 81 CLK E1 (in), 82 VSS 4 (power), 83 IO 7 (io), 84 IO 6 (io)

## f7024
designator U?
High-Density Programmable Electrically Erasable Logic Peel Array; Published: 16-Jul-2002; LatestRevisionDate: 17-Jul-2002; LatestRevisionNote: Re-released for DXP Platform.; Publisher: Altium Limited
pins: 1 IN/CLK1 (in), 2 IO (io), 3 IO (io), 4 IO (io), 5 IO (io), 6 IO (io), 7 IO (io), 8 IO (io), 9 IO (io), 10 IO (io), 11 IO (io), 12 GND (power), 13 IN/CLK2 (in), 14 IO (io), 15 IO (io), 16 IO (io), 17 IO (io), 18 IO (io), 19 IO (io), 20 IO (io), 21 IO (io), 22 IO (io), 23 IO (io), 24 VCC (power)

## f7128
designator U?
NMOS 128K (16K X 8) UV EPROM; Published: 16-Jul-2002; LatestRevisionDate: 17-Jul-2002; LatestRevisionNote: Re-released for DXP Platform.; Publisher: Altium Limited
footprint DIP-28/D38.1
pins: 1 IN/CLK 1 (in), 2 IN (in), 3 IN (in), 4 IN (in), 5 IN (in), 6 IN (in), 7 VCC (power), 8 IN (in), 9 IN (in), 10 IN (in), 11 IN (in), 12 IN (in), 13 IN (in), 14 IN (in), 15 IO (io), 16 IO (io), 17 IO (io), 18 IO (io), 19 IO (io), 20 IO (io), 21 GND (power), 22 IO (io), 23 IO (io), 24 IO (io), 25 IO (io), 26 IO (io), 27 IO (io), 28 IN/CLK 2 (in)

## g16v8
designator U?
Low Voltage, Zero Power 20-Pin EE CMOS Universal Programmable Array Logic; Published: 16-Jul-2002; LatestRevisionDate: 17-Jul-2002; LatestRevisionNote: Re-released for DXP Platform.; Publisher: Altium Limited
footprint QCC-J20
pins: 1 IN 0/CLK (in), 2 IN 1 (in), 3 IN 2 (in), 4 IN 3 (in), 5 IN 4 (in), 6 IN 5 (in), 7 IN 6 (in), 8 IN 7 (in), 9 IN 8 (in), 10 GND (power), 11 IN 9~{/OE} (in), 12 IO 0 (io), 13 IO 1 (io), 14 IO 2 (io), 15 IO 3 (io), 16 IO 4 (io), 17 IO 5 (io), 18 IO 6 (io), 19 IO 7 (io), 20 VCC (power)

## g16v8a
designator U?
High-Performance E²CMOS PLD; Published: 16-Jul-2002; LatestRevisionDate: 17-Jul-2002; LatestRevisionNote: Re-released for DXP Platform.; Publisher: Altium Limited
footprint DIP-20/E5.3
pins: 1 IN 0/CLK (in), 2 IN 1 (in), 3 IN 2 (in), 4 IN 3 (in), 5 IN 4 (in), 6 IN 5 (in), 7 IN 6 (in), 8 IN 7 (in), 9 IN 8 (in), 10 GND (power), 11 IN 9~{/OE} (in), 12 IO 0 (io), 13 IO 1 (io), 14 IO 2 (io), 15 IO 3 (io), 16 IO 4 (io), 17 IO 5 (io), 18 IO 6 (io), 19 IO 7 (io), 20 VCC (power)

## g16v8h
designator U?
EE CMOS 24-Pin High-Drive Universal PAL Device; Published: 16-Jul-2002; LatestRevisionDate: 17-Jul-2002; LatestRevisionNote: Re-released for DXP Platform.; Publisher: Altium Limited
pins: 1 IN 0/CLK (in), 2 IN 1 (in), 3 IN 2 (in), 4 IN 3/LE (in), 5 IN 4 (in), 6 IN 5 (in), 7 IN 6 (in), 8 IN 7 (in), 9 IN 8 (in), 10 IN 9/~{OE} (in), 11 VCC (power), 12 GND (power), 13 IO 0 (io), 14 IO 1 (io), 15 IO 2 (io), 16 IO 3 (io), 17 GND (power), 18 VCC (power), 19 IO 4 (io), 20 IO 5 (io), 21 GND (power), 22 IO 6 (io), 23 IO 7 (io), 24 VCC (power)

## g16v8hlcc
designator U?
EE CMOS  High-Drive Universal PAL Device; Published: 16-Jul-2002; LatestRevisionDate: 17-Jul-2002; LatestRevisionNote: Re-released for DXP Platform.; Publisher: Altium Limited
pins: 1 NC, 2 CLK/IN 0 (in), 3 IN 1 (in), 4 IN 2 (in), 5 IN 3/LE (in), 6 IN 4 (in), 7 IN 5 (in), 8 NC, 9 IN 6 (in), 10 IN 7 (in), 11 IN 8 (in), 12 IN 9/~{OE} (in), 13 VCC (power), 14 GND (power), 15 NC, 16 IO 0 (io), 17 IO 1 (io), 18 IO 2 (io), 19 IO 3 (io), 20 GND (power), 21 VCC (power), 22 NC, 23 IO 4 (io), 24 IO 5 (io), 25 GND (power), 26 IO 6 (io), 27 IO 7 (io), 28 VCC (power)

## g16vp8
designator U?
High-Speed E²CMOS PLD Generic Array Logic; Published: 16-Jul-2002; LatestRevisionDate: 17-Jul-2002; LatestRevisionNote: Re-released for DXP Platform.; Publisher: Altium Limited
footprint QCC-J20
pins: 1 IN 0/CLK (in), 2 IN 1 (in), 3 IN 2 (in), 4 IN 3 (in), 5 IN 4 (in), 6 IN 5 (in), 7 IN 6 (in), 8 IN 7 (in), 9 IN 8 (in), 10 GND (power), 11 IN 9/ OE (in), 12 IO 0 (io), 13 IO 1 (io), 14 IO 2 (io), 15 IO 3 (io), 16 IO 4 (io), 17 IO 5 (io), 18 IO 6 (io), 19 IO 7 (io), 20 VCC (power)

## g16z8
designator U?
In-System Programmable High-Performance E²CMOS PLD; Published: 16-Jul-2002; LatestRevisionDate: 17-Jul-2002; LatestRevisionNote: Re-released for DXP Platform.; Publisher: Altium Limited
footprint DIP-24/X1.5
pins: 1 IN/CLK (in), 2 DCLK (in), 3 IN (in), 4 IN (in), 5 IN (in), 6 IN (in), 7 IN (in), 8 IN (in), 9 IN (in), 10 IN (in), 11 IN (in), 12 GND (power), 13 IN~{/OE} (in), 14 SDO (out), 15 IO (io), 16 IO (io), 17 IO (io), 18 IO (io), 19 IO (io), 20 IO (io), 21 IO (io), 22 IO (io), 23 MODE (in), 24 VCC (power)

## g16z8lcc
designator U?
In-System Programmable High-Performance E²CMOS PLD; Published: 16-Jul-2002; LatestRevisionDate: 17-Jul-2002; LatestRevisionNote: Re-released for DXP Platform.; Publisher: Altium Limited
footprint QCC-J28/X.6
pins: 1 NC, 2 IN/CLK (in), 3 DCLK (in), 4 IN (in), 5 IN (in), 6 IN (in), 7 IN (in), 8 NC, 9 IN (in), 10 IN (in), 11 IN (in), 12 IN (in), 13 SDI (out), 14 GND (power), 15 NC, 16 IN~{/OE} (in), 17 SDO (out), 18 IO/Q (io), 19 IO/Q (io), 20 IO/Q (io), 21 IO/Q (io), 22 NC, 23 IO/Q (io), 24 IO/Q (io), 25 IO/Q (io), 26 IO/Q (io), 27 MODE (in), 28 VCC (power)

## g18v10
designator U?
High-Performance E²CMOS PLD Generic Array Logic; Published: 16-Jul-2002; LatestRevisionDate: 17-Jul-2002; LatestRevisionNote: Re-released for DXP Platform.; Publisher: Altium Limited
footprint DIP-20/E5.3
pins: 1 IN/CLK (in), 2 IN (in), 3 IN (in), 4 IN (in), 5 IN (in), 6 IN (in), 7 IN (in), 8 IN (in), 9 IO (io), 10 GND (power), 11 IO (io), 12 IO (io), 13 IO (io), 14 IO (io), 15 IO (io), 16 IO (io), 17 IO (io), 18 IO (io), 19 IO (io), 20 VCC (power)